# Altium integrated library Xilinx PLD XC9500XV.IntLib: 50 symbols (part 1 of 3)
Pins are listed as number, name and electrical type; pins without a type are passive.

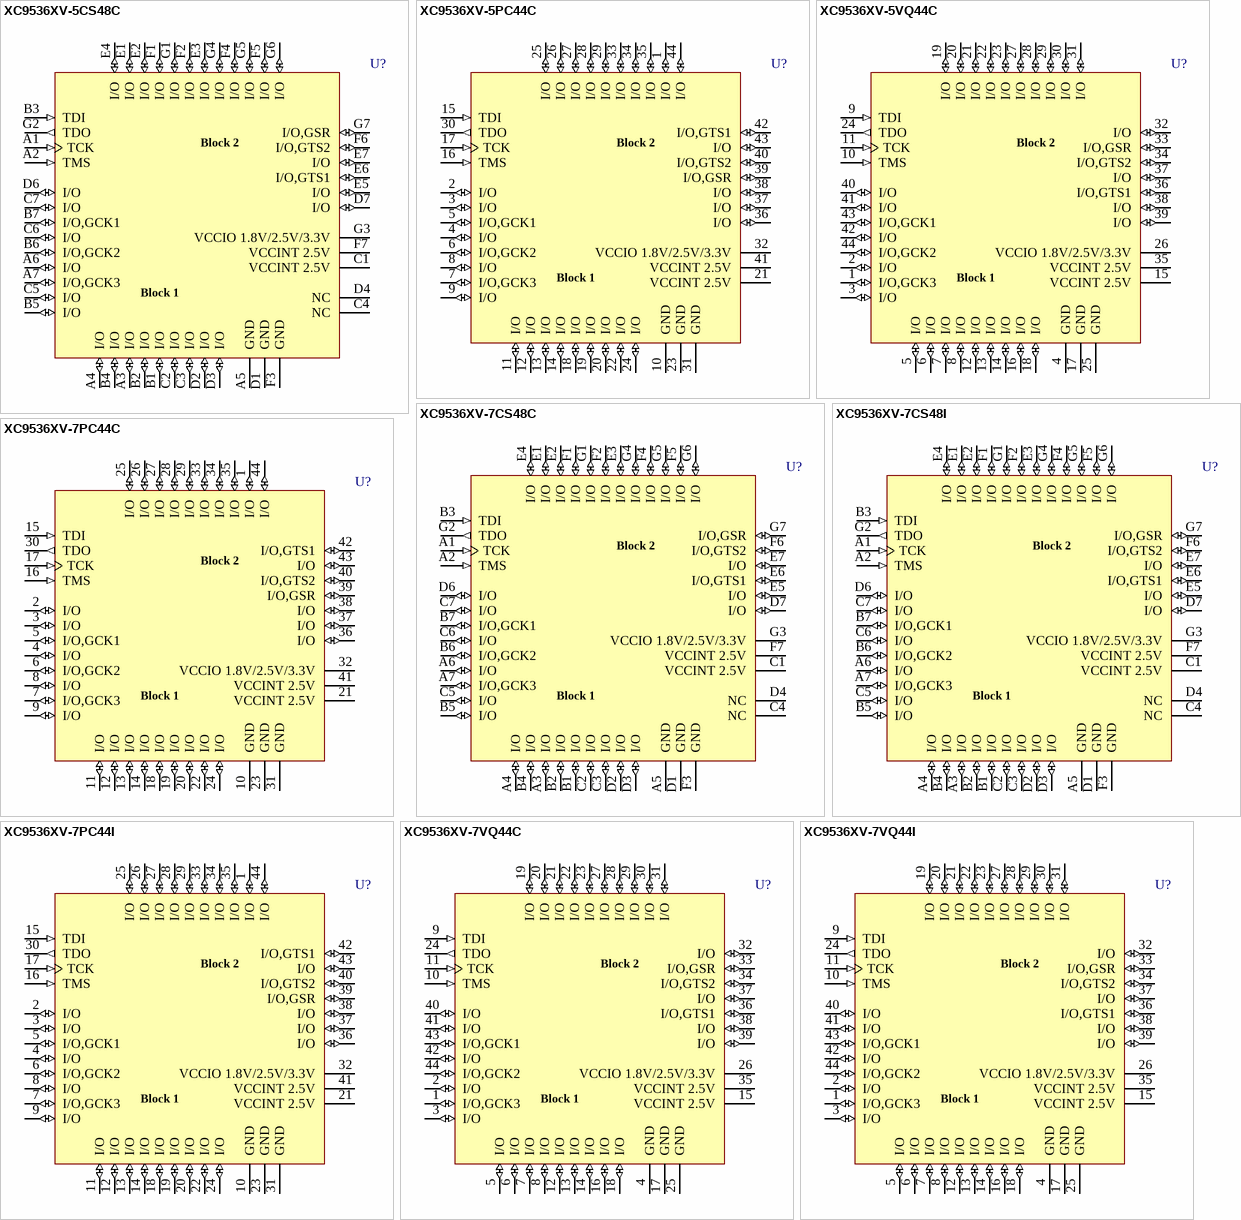
[diagram p0: symbols XC9536XV-5CS48C to XC9536XV-7VQ44I]

## XC9536XV-5CS48C
designator U?
XC9500XV, 2.5V High-Performance CPLD with 36 Macrocells, 48-Ball CSBGA, Commercial Grade; PackageDocument: ver1.1, Apr-2001; Published: 17-Jul-2002; DatasheetDocument: ver2.5, Aug-2003; PackageReference: CS48; Publisher: Altium Limited
footprint CS48 (48-Ball Chip Scale Ball Grid Array (CS48))
3D model XC9536XV-CS48 (48-Ball Chip Scale Ball Grid Array (CS48))
signal-integrity model XC9536XV_CS48 (XC9500XV)
pins: A1 TCK (in), A2 TMS (in), A3 I/O (io), A4 I/O (io), A5 GND (power), A6 I/O (io), A7 I/O,GCK3 (io), B1 I/O (io), B2 I/O (io), B3 TDI (in), B4 I/O (io), B5 I/O (io), B6 I/O,GCK2 (io), B7 I/O,GCK1 (io), C1 VCCINT 2.5V (power), C2 I/O (io), C3 I/O (io), C4 NC, C5 I/O (io), C6 I/O (io), C7 I/O (io), D1 GND (power), D2 I/O (io), D3 I/O (io), D4 NC, D6 I/O (io), D7 I/O (io), E1 I/O (io), E2 I/O (io), E3 I/O (io), E4 I/O (io), E5 I/O (io), E6 I/O,GTS1 (io), E7 I/O (io), F1 I/O (io), F2 I/O (io), F3 GND (power), F4 I/O (io), F5 I/O (io), F6 I/O,GTS2 (io), F7 VCCINT 2.5V (power), G1 I/O (io), G2 TDO (out), G3 VCCIO 1.8V/2.5V/3.3V (power), G4 I/O (io), G5 I/O (io), G6 I/O (io), G7 I/O,GSR (io)
text: Block 2; Block 1

## XC9536XV-5PC44C
designator U?
XC9500XV, 2.5V High-Performance CPLD with 36 Macrocells, 44-Pin PLCC, Commercial Grade; PackageDocument: ver1.0, Jun-2000; Published: 17-Jul-2002; DatasheetDocument: ver2.5, Aug-2003; PackageReference: PC44; Publisher: Altium Limited; Code_JEDEC: MS-047; Code_IPC: PLCC-44
footprint PC44 (44-Pin Plastic Leaded Chip Carrier (PC44))
3D model XC9536XV-PC44 (44-Pin Plastic Leaded Chip Carrier (PC44))
signal-integrity model XC9536XV_PLCC44 (XC9500XV)
pins: 1 I/O (io), 2 I/O (io), 3 I/O (io), 4 I/O (io), 5 I/O,GCK1 (io), 6 I/O,GCK2 (io), 7 I/O,GCK3 (io), 8 I/O (io), 9 I/O (io), 10 GND (power), 11 I/O (io), 12 I/O (io), 13 I/O (io), 14 I/O (io), 15 TDI (in), 16 TMS (in), 17 TCK (in), 18 I/O (io), 19 I/O (io), 20 I/O (io), 21 VCCINT 2.5V (power), 22 I/O (io), 23 GND (power), 24 I/O (io), 25 I/O (io), 26 I/O (io), 27 I/O (io), 28 I/O (io), 29 I/O (io), 30 TDO (out), 31 GND (power), 32 VCCIO 1.8V/2.5V/3.3V (power), 33 I/O (io), 34 I/O (io), 35 I/O (io), 36 I/O (io), 37 I/O (io), 38 I/O (io), 39 I/O,GSR (io), 40 I/O,GTS2 (io), 41 VCCINT 2.5V (power), 42 I/O,GTS1 (io), 43 I/O (io), 44 I/O (io)
text: Block 2; Block 1

## XC9536XV-5VQ44C
designator U?
XC9500XV, 2.5V High-Performance CPLD with 36 Macrocells, 44-Pin VQFP, Commercial Grade; PackageDocument: ver1.1, Oct-2002; Published: 17-Jul-2002; DatasheetDocument: ver2.5, Aug-2003; PackageReference: VQ44; Publisher: Altium Limited; Code_JEDEC: MS-026-ACB
footprint VQ44 (44-Pin Very Thin Quad Flat Pack (VQ44))
3D model XC9536XV-VQ44 (44-Pin Very Thin Quad Flat Pack (VQ44))
signal-integrity model XC9536XV_VQ44 (XC9500XV)
pins: 1 I/O,GCK3 (io), 2 I/O (io), 3 I/O (io), 4 GND (power), 5 I/O (io), 6 I/O (io), 7 I/O (io), 8 I/O (io), 9 TDI (in), 10 TMS (in), 11 TCK (in), 12 I/O (io), 13 I/O (io), 14 I/O (io), 15 VCCINT 2.5V (power), 16 I/O (io), 17 GND (power), 18 I/O (io), 19 I/O (io), 20 I/O (io), 21 I/O (io), 22 I/O (io), 23 I/O (io), 24 TDO (out), 25 GND (power), 26 VCCIO 1.8V/2.5V/3.3V (power), 27 I/O (io), 28 I/O (io), 29 I/O (io), 30 I/O (io), 31 I/O (io), 32 I/O (io), 33 I/O,GSR (io), 34 I/O,GTS2 (io), 35 VCCINT 2.5V (power), 36 I/O,GTS1 (io), 37 I/O (io), 38 I/O (io), 39 I/O (io), 40 I/O (io), 41 I/O (io), 42 I/O (io), 43 I/O,GCK1 (io), 44 I/O,GCK2 (io)
text: Block 2; Block 1

## XC9536XV-7CS48C
designator U?
XC9500XV, 2.5V High-Performance CPLD with 36 Macrocells, 48-Ball CSBGA, Commercial Grade; PackageDocument: ver1.1, Apr-2001; Published: 17-Jul-2002; DatasheetDocument: ver2.5, Aug-2003; PackageReference: CS48; Publisher: Altium Limited
footprint CS48 (48-Ball Chip Scale Ball Grid Array (CS48))
3D model XC9536XV-CS48 (48-Ball Chip Scale Ball Grid Array (CS48))
signal-integrity model XC9536XV_CS48 (XC9500XV)
pins: A1 TCK (in), A2 TMS (in), A3 I/O (io), A4 I/O (io), A5 GND (power), A6 I/O (io), A7 I/O,GCK3 (io), B1 I/O (io), B2 I/O (io), B3 TDI (in), B4 I/O (io), B5 I/O (io), B6 I/O,GCK2 (io), B7 I/O,GCK1 (io), C1 VCCINT 2.5V (power), C2 I/O (io), C3 I/O (io), C4 NC, C5 I/O (io), C6 I/O (io), C7 I/O (io), D1 GND (power), D2 I/O (io), D3 I/O (io), D4 NC, D6 I/O (io), D7 I/O (io), E1 I/O (io), E2 I/O (io), E3 I/O (io), E4 I/O (io), E5 I/O (io), E6 I/O,GTS1 (io), E7 I/O (io), F1 I/O (io), F2 I/O (io), F3 GND (power), F4 I/O (io), F5 I/O (io), F6 I/O,GTS2 (io), F7 VCCINT 2.5V (power), G1 I/O (io), G2 TDO (out), G3 VCCIO 1.8V/2.5V/3.3V (power), G4 I/O (io), G5 I/O (io), G6 I/O (io), G7 I/O,GSR (io)
text: Block 2; Block 1

## XC9536XV-7CS48I
designator U?
XC9500XV, 2.5V High-Performance CPLD with 36 Macrocells, 48-Ball CSBGA, Industrial Grade; PackageDocument: ver1.1, Apr-2001; Published: 17-Jul-2002; DatasheetDocument: ver2.5, Aug-2003; PackageReference: CS48; Publisher: Altium Limited
footprint CS48 (48-Ball Chip Scale Ball Grid Array (CS48))
3D model XC9536XV-CS48 (48-Ball Chip Scale Ball Grid Array (CS48))
signal-integrity model XC9536XV_CS48 (XC9500XV)
pins: A1 TCK (in), A2 TMS (in), A3 I/O (io), A4 I/O (io), A5 GND (power), A6 I/O (io), A7 I/O,GCK3 (io), B1 I/O (io), B2 I/O (io), B3 TDI (in), B4 I/O (io), B5 I/O (io), B6 I/O,GCK2 (io), B7 I/O,GCK1 (io), C1 VCCINT 2.5V (power), C2 I/O (io), C3 I/O (io), C4 NC, C5 I/O (io), C6 I/O (io), C7 I/O (io), D1 GND (power), D2 I/O (io), D3 I/O (io), D4 NC, D6 I/O (io), D7 I/O (io), E1 I/O (io), E2 I/O (io), E3 I/O (io), E4 I/O (io), E5 I/O (io), E6 I/O,GTS1 (io), E7 I/O (io), F1 I/O (io), F2 I/O (io), F3 GND (power), F4 I/O (io), F5 I/O (io), F6 I/O,GTS2 (io), F7 VCCINT 2.5V (power), G1 I/O (io), G2 TDO (out), G3 VCCIO 1.8V/2.5V/3.3V (power), G4 I/O (io), G5 I/O (io), G6 I/O (io), G7 I/O,GSR (io)
text: Block 2; Block 1

## XC9536XV-7PC44C
designator U?
XC9500XV, 2.5V High-Performance CPLD with 36 Macrocells, 44-Pin PLCC, Commercial Grade; PackageDocument: ver1.0, Jun-2000; Published: 17-Jul-2002; DatasheetDocument: ver2.5, Aug-2003; PackageReference: PC44; Publisher: Altium Limited; Code_JEDEC: MS-047; Code_IPC: PLCC-44
footprint PC44 (44-Pin Plastic Leaded Chip Carrier (PC44))
3D model XC9536XV-PC44 (44-Pin Plastic Leaded Chip Carrier (PC44))
signal-integrity model XC9536XV_PLCC44 (XC9500XV)
pins: 1 I/O (io), 2 I/O (io), 3 I/O (io), 4 I/O (io), 5 I/O,GCK1 (io), 6 I/O,GCK2 (io), 7 I/O,GCK3 (io), 8 I/O (io), 9 I/O (io), 10 GND (power), 11 I/O (io), 12 I/O (io), 13 I/O (io), 14 I/O (io), 15 TDI (in), 16 TMS (in), 17 TCK (in), 18 I/O (io), 19 I/O (io), 20 I/O (io), 21 VCCINT 2.5V (power), 22 I/O (io), 23 GND (power), 24 I/O (io), 25 I/O (io), 26 I/O (io), 27 I/O (io), 28 I/O (io), 29 I/O (io), 30 TDO (out), 31 GND (power), 32 VCCIO 1.8V/2.5V/3.3V (power), 33 I/O (io), 34 I/O (io), 35 I/O (io), 36 I/O (io), 37 I/O (io), 38 I/O (io), 39 I/O,GSR (io), 40 I/O,GTS2 (io), 41 VCCINT 2.5V (power), 42 I/O,GTS1 (io), 43 I/O (io), 44 I/O (io)
text: Block 2; Block 1

## XC9536XV-7PC44I
designator U?
XC9500XV, 2.5V High-Performance CPLD with 36 Macrocells, 44-Pin PLCC, Industrial Grade; PackageDocument: ver1.0, Jun-2000; Published: 17-Jul-2002; DatasheetDocument: ver2.5, Aug-2003; PackageReference: PC44; Publisher: Altium Limited; Code_JEDEC: MS-047; Code_IPC: PLCC-44
footprint PC44 (44-Pin Plastic Leaded Chip Carrier (PC44))
3D model XC9536XV-PC44 (44-Pin Plastic Leaded Chip Carrier (PC44))
signal-integrity model XC9536XV_PLCC44 (XC9500XV)
pins: 1 I/O (io), 2 I/O (io), 3 I/O (io), 4 I/O (io), 5 I/O,GCK1 (io), 6 I/O,GCK2 (io), 7 I/O,GCK3 (io), 8 I/O (io), 9 I/O (io), 10 GND (power), 11 I/O (io), 12 I/O (io), 13 I/O (io), 14 I/O (io), 15 TDI (in), 16 TMS (in), 17 TCK (in), 18 I/O (io), 19 I/O (io), 20 I/O (io), 21 VCCINT 2.5V (power), 22 I/O (io), 23 GND (power), 24 I/O (io), 25 I/O (io), 26 I/O (io), 27 I/O (io), 28 I/O (io), 29 I/O (io), 30 TDO (out), 31 GND (power), 32 VCCIO 1.8V/2.5V/3.3V (power), 33 I/O (io), 34 I/O (io), 35 I/O (io), 36 I/O (io), 37 I/O (io), 38 I/O (io), 39 I/O,GSR (io), 40 I/O,GTS2 (io), 41 VCCINT 2.5V (power), 42 I/O,GTS1 (io), 43 I/O (io), 44 I/O (io)
text: Block 2; Block 1

## XC9536XV-7VQ44C
designator U?
XC9500XV, 2.5V High-Performance CPLD with 36 Macrocells, 44-Pin VQFP, Commercial Grade; PackageDocument: ver1.1, Oct-2002; Published: 17-Jul-2002; DatasheetDocument: ver2.5, Aug-2003; PackageReference: VQ44; Publisher: Altium Limited; Code_JEDEC: MS-026-ACB
footprint VQ44 (44-Pin Very Thin Quad Flat Pack (VQ44))
3D model XC9536XV-VQ44 (44-Pin Very Thin Quad Flat Pack (VQ44))
signal-integrity model XC9536XV_VQ44 (XC9500XV)
pins: 1 I/O,GCK3 (io), 2 I/O (io), 3 I/O (io), 4 GND (power), 5 I/O (io), 6 I/O (io), 7 I/O (io), 8 I/O (io), 9 TDI (in), 10 TMS (in), 11 TCK (in), 12 I/O (io), 13 I/O (io), 14 I/O (io), 15 VCCINT 2.5V (power), 16 I/O (io), 17 GND (power), 18 I/O (io), 19 I/O (io), 20 I/O (io), 21 I/O (io), 22 I/O (io), 23 I/O (io), 24 TDO (out), 25 GND (power), 26 VCCIO 1.8V/2.5V/3.3V (power), 27 I/O (io), 28 I/O (io), 29 I/O (io), 30 I/O (io), 31 I/O (io), 32 I/O (io), 33 I/O,GSR (io), 34 I/O,GTS2 (io), 35 VCCINT 2.5V (power), 36 I/O,GTS1 (io), 37 I/O (io), 38 I/O (io), 39 I/O (io), 40 I/O (io), 41 I/O (io), 42 I/O (io), 43 I/O,GCK1 (io), 44 I/O,GCK2 (io)
text: Block 2; Block 1

## XC9536XV-7VQ44I
designator U?
XC9500XV, 2.5V High-Performance CPLD with 36 Macrocells, 44-Pin VQFP, Industrial Grade; PackageDocument: ver1.1, Oct-2002; Published: 17-Jul-2002; DatasheetDocument: ver2.5, Aug-2003; PackageReference: VQ44; Publisher: Altium Limited; Code_JEDEC: MS-026-ACB
footprint VQ44 (44-Pin Very Thin Quad Flat Pack (VQ44))
3D model XC9536XV-VQ44 (44-Pin Very Thin Quad Flat Pack (VQ44))
signal-integrity model XC9536XV_VQ44 (XC9500XV)
pins: 1 I/O,GCK3 (io), 2 I/O (io), 3 I/O (io), 4 GND (power), 5 I/O (io), 6 I/O (io), 7 I/O (io), 8 I/O (io), 9 TDI (in), 10 TMS (in), 11 TCK (in), 12 I/O (io), 13 I/O (io), 14 I/O (io), 15 VCCINT 2.5V (power), 16 I/O (io), 17 GND (power), 18 I/O (io), 19 I/O (io), 20 I/O (io), 21 I/O (io), 22 I/O (io), 23 I/O (io), 24 TDO (out), 25 GND (power), 26 VCCIO 1.8V/2.5V/3.3V (power), 27 I/O (io), 28 I/O (io), 29 I/O (io), 30 I/O (io), 31 I/O (io), 32 I/O (io), 33 I/O,GSR (io), 34 I/O,GTS2 (io), 35 VCCINT 2.5V (power), 36 I/O,GTS1 (io), 37 I/O (io), 38 I/O (io), 39 I/O (io), 40 I/O (io), 41 I/O (io), 42 I/O (io), 43 I/O,GCK1 (io), 44 I/O,GCK2 (io)
text: Block 2; Block 1

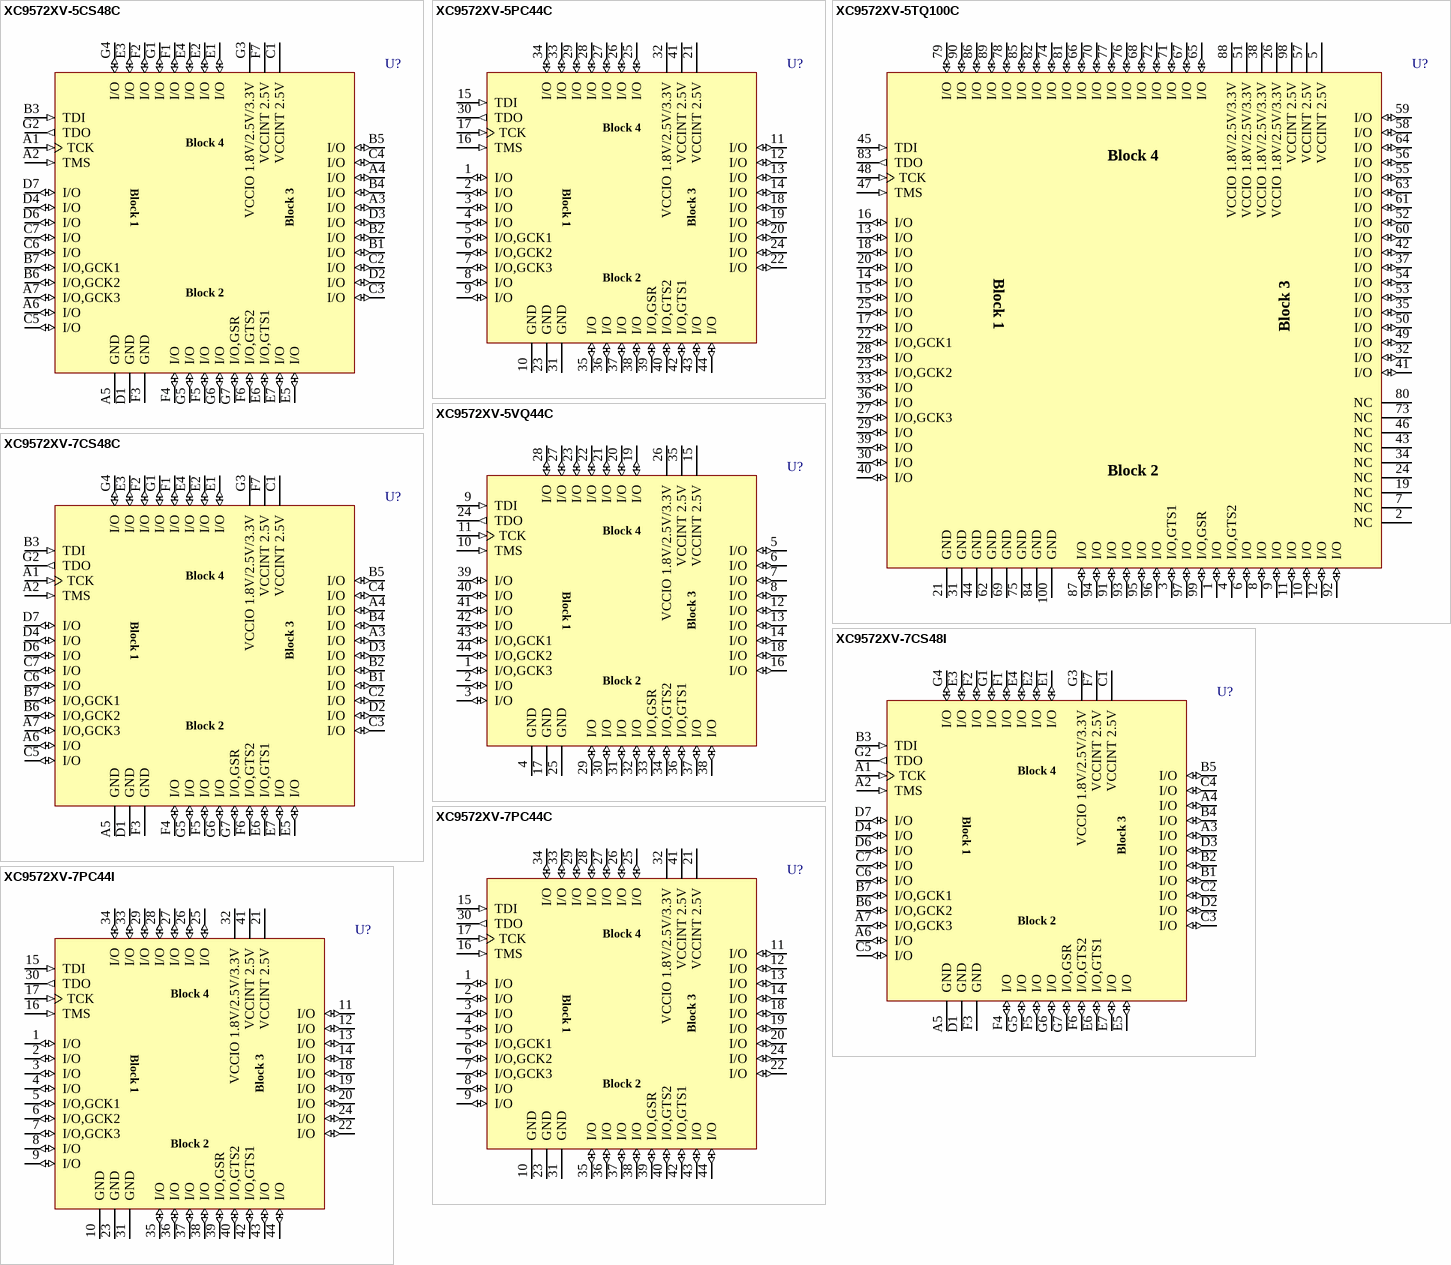
[diagram p1: symbols XC9572XV-5CS48C to XC9572XV-7PC44I]

## XC9572XV-5CS48C
designator U?
XC9500XV, 2.5V High-Performance CPLD with 72 Macrocells, 48-Ball CSBGA, Commercial Grade; PackageDocument: ver1.1, Apr-2001; Published: 17-Jul-2002; DatasheetDocument: ver2.5, Aug-2003; PackageReference: CS48; Publisher: Altium Limited
footprint CS48 (48-Ball Chip Scale Ball Grid Array (CS48))
3D model XC9572XV-CS48 (48-Ball Chip Scale Ball Grid Array (CS48))
signal-integrity model XC9572XV_CS48 (XC9500XV)
pins: A1 TCK (in), A2 TMS (in), A3 I/O (io), A4 I/O (io), A5 GND (power), A6 I/O (io), A7 I/O,GCK3 (io), B1 I/O (io), B2 I/O (io), B3 TDI (in), B4 I/O (io), B5 I/O (io), B6 I/O,GCK2 (io), B7 I/O,GCK1 (io), C1 VCCINT 2.5V (power), C2 I/O (io), C3 I/O (io), C4 I/O (io), C5 I/O (io), C6 I/O (io), C7 I/O (io), D1 GND (power), D2 I/O (io), D3 I/O (io), D4 I/O (io), D6 I/O (io), D7 I/O (io), E1 I/O (io), E2 I/O (io), E3 I/O (io), E4 I/O (io), E5 I/O (io), E6 I/O,GTS1 (io), E7 I/O (io), F1 I/O (io), F2 I/O (io), F3 GND (power), F4 I/O (io), F5 I/O (io), F6 I/O,GTS2 (io), F7 VCCINT 2.5V (power), G1 I/O (io), G2 TDO (out), G3 VCCIO 1.8V/2.5V/3.3V (power), G4 I/O (io), G5 I/O (io), G6 I/O (io), G7 I/O,GSR (io)
text: Block 4; Block 1; Block 3; Block 2

## XC9572XV-5PC44C
designator U?
XC9500XV, 2.5V High-Performance CPLD with 72 Macrocells, 44-Pin PLCC, Commercial Grade; PackageDocument: ver1.0, Jun-2000; Published: 17-Jul-2002; DatasheetDocument: ver2.5, Aug-2003; PackageReference: PC44; Publisher: Altium Limited; Code_JEDEC: MS-047; Code_IPC: PLCC-44
footprint PC44 (44-Pin Plastic Leaded Chip Carrier (PC44))
3D model XC9572XV-PC44 (44-Pin Plastic Leaded Chip Carrier (PC44))
signal-integrity model XC9572XV_PLCC44 (XC9500XV)
pins: 1 I/O (io), 2 I/O (io), 3 I/O (io), 4 I/O (io), 5 I/O,GCK1 (io), 6 I/O,GCK2 (io), 7 I/O,GCK3 (io), 8 I/O (io), 9 I/O (io), 10 GND (power), 11 I/O (io), 12 I/O (io), 13 I/O (io), 14 I/O (io), 15 TDI (in), 16 TMS (in), 17 TCK (in), 18 I/O (io), 19 I/O (io), 20 I/O (io), 21 VCCINT 2.5V (power), 22 I/O (io), 23 GND (power), 24 I/O (io), 25 I/O (io), 26 I/O (io), 27 I/O (io), 28 I/O (io), 29 I/O (io), 30 TDO (out), 31 GND (power), 32 VCCIO 1.8V/2.5V/3.3V (power), 33 I/O (io), 34 I/O (io), 35 I/O (io), 36 I/O (io), 37 I/O (io), 38 I/O (io), 39 I/O,GSR (io), 40 I/O,GTS2 (io), 41 VCCINT 2.5V (power), 42 I/O,GTS1 (io), 43 I/O (io), 44 I/O (io)
text: Block 4; Block 1; Block 3; Block 2

## XC9572XV-5TQ100C
designator U?
XC9500XV, 2.5V High-Performance CPLD with 72 Macrocells, 100-Pin TQFP, Commercial Grade; PackageDocument: ver1.1, Oct-2002; Published: 17-Jul-2002; DatasheetDocument: ver2.5, Aug-2003; PackageReference: TQ100; Publisher: Altium Limited; Code_IPC: SQFP14X14-100
footprint TQ100 (100-Pin Thin Quad Flat Pack (TQ100))
3D model XC9572XV-TQ100 (100-Pin Thin Quad Flat Pack (TQ100))
signal-integrity model XC9572XV_TQ100 (XC9500XV)
pins: 1 I/O (io), 2 NC, 3 I/O,GTS1 (io), 4 I/O,GTS2 (io), 5 VCCINT 2.5V (power), 6 I/O (io), 7 NC, 8 I/O (io), 9 I/O (io), 10 I/O (io), 11 I/O (io), 12 I/O (io), 13 I/O (io), 14 I/O (io), 15 I/O (io), 16 I/O (io), 17 I/O (io), 18 I/O (io), 19 NC, 20 I/O (io), 21 GND (power), 22 I/O,GCK1 (io), 23 I/O,GCK2 (io), 24 NC, 25 I/O (io), 26 VCCIO 1.8V/2.5V/3.3V (power), 27 I/O,GCK3 (io), 28 I/O (io), 29 I/O (io), 30 I/O (io), 31 GND (power), 32 I/O (io), 33 I/O (io), 34 NC, 35 I/O (io), 36 I/O (io), 37 I/O (io), 38 VCCIO 1.8V/2.5V/3.3V (power), 39 I/O (io), 40 I/O (io), 41 I/O (io), 42 I/O (io), 43 NC, 44 GND (power), 45 TDI (in), 46 NC, 47 TMS (in), 48 TCK (in), 49 I/O (io), 50 I/O (io), 51 VCCIO 1.8V/2.5V/3.3V (power), 52 I/O (io), 53 I/O (io), 54 I/O (io), 55 I/O (io), 56 I/O (io), 57 VCCINT 2.5V (power), 58 I/O (io), 59 I/O (io), 60 I/O (io), 61 I/O (io), 62 GND (power), 63 I/O (io), 64 I/O (io), 65 I/O (io), 66 I/O (io), 67 I/O (io), 68 I/O (io), 69 GND (power), 70 I/O (io), 71 I/O (io), 72 I/O (io), 73 NC, 74 I/O (io), 75 GND (power), 76 I/O (io), 77 I/O (io), 78 I/O (io), 79 I/O (io), 80 NC, 81 I/O (io), 82 I/O (io), 83 TDO (out), 84 GND (power), 85 I/O (io), 86 I/O (io), 87 I/O (io), 88 VCCIO 1.8V/2.5V/3.3V (power), 89 I/O (io), 90 I/O (io), 91 I/O (io), 92 I/O (io), 93 I/O (io), 94 I/O (io), 95 I/O (io), 96 I/O (io), 97 I/O (io), 98 VCCINT 2.5V (power), 99 I/O,GSR (io), 100 GND (power)
text: Block 4; Block 1; Block 3; Block 2

## XC9572XV-5VQ44C
designator U?
XC9500XV, 2.5V High-Performance CPLD with 72 Macrocells, 44-Pin VQFP, Commercial Grade; PackageDocument: ver1.1, Oct-2002; Published: 17-Jul-2002; DatasheetDocument: ver2.5, Aug-2003; PackageReference: VQ44; Publisher: Altium Limited; Code_JEDEC: MS-026-ACB
footprint VQ44 (44-Pin Very Thin Quad Flat Pack (VQ44))
3D model XC9572XV-VQ44 (44-Pin Very Thin Quad Flat Pack (VQ44))
signal-integrity model XC9572XV_VQ44 (XC9500XV)
pins: 1 I/O,GCK3 (io), 2 I/O (io), 3 I/O (io), 4 GND (power), 5 I/O (io), 6 I/O (io), 7 I/O (io), 8 I/O (io), 9 TDI (in), 10 TMS (in), 11 TCK (in), 12 I/O (io), 13 I/O (io), 14 I/O (io), 15 VCCINT 2.5V (power), 16 I/O (io), 17 GND (power), 18 I/O (io), 19 I/O (io), 20 I/O (io), 21 I/O (io), 22 I/O (io), 23 I/O (io), 24 TDO (out), 25 GND (power), 26 VCCIO 1.8V/2.5V/3.3V (power), 27 I/O (io), 28 I/O (io), 29 I/O (io), 30 I/O (io), 31 I/O (io), 32 I/O (io), 33 I/O,GSR (io), 34 I/O,GTS2 (io), 35 VCCINT 2.5V (power), 36 I/O,GTS1 (io), 37 I/O (io), 38 I/O (io), 39 I/O (io), 40 I/O (io), 41 I/O (io), 42 I/O (io), 43 I/O,GCK1 (io), 44 I/O,GCK2 (io)
text: Block 4; Block 1; Block 3; Block 2

## XC9572XV-7CS48C
designator U?
XC9500XV, 2.5V High-Performance CPLD with 72 Macrocells, 48-Ball CSBGA, Commercial Grade; PackageDocument: ver1.1, Apr-2001; Published: 17-Jul-2002; DatasheetDocument: ver2.5, Aug-2003; PackageReference: CS48; Publisher: Altium Limited
footprint CS48 (48-Ball Chip Scale Ball Grid Array (CS48))
3D model XC9572XV-CS48 (48-Ball Chip Scale Ball Grid Array (CS48))
signal-integrity model XC9572XV_CS48 (XC9500XV)
pins: A1 TCK (in), A2 TMS (in), A3 I/O (io), A4 I/O (io), A5 GND (power), A6 I/O (io), A7 I/O,GCK3 (io), B1 I/O (io), B2 I/O (io), B3 TDI (in), B4 I/O (io), B5 I/O (io), B6 I/O,GCK2 (io), B7 I/O,GCK1 (io), C1 VCCINT 2.5V (power), C2 I/O (io), C3 I/O (io), C4 I/O (io), C5 I/O (io), C6 I/O (io), C7 I/O (io), D1 GND (power), D2 I/O (io), D3 I/O (io), D4 I/O (io), D6 I/O (io), D7 I/O (io), E1 I/O (io), E2 I/O (io), E3 I/O (io), E4 I/O (io), E5 I/O (io), E6 I/O,GTS1 (io), E7 I/O (io), F1 I/O (io), F2 I/O (io), F3 GND (power), F4 I/O (io), F5 I/O (io), F6 I/O,GTS2 (io), F7 VCCINT 2.5V (power), G1 I/O (io), G2 TDO (out), G3 VCCIO 1.8V/2.5V/3.3V (power), G4 I/O (io), G5 I/O (io), G6 I/O (io), G7 I/O,GSR (io)
text: Block 4; Block 1; Block 3; Block 2

## XC9572XV-7CS48I
designator U?
XC9500XV, 2.5V High-Performance CPLD with 72 Macrocells, 48-Ball CSBGA, Industrial Grade; PackageDocument: ver1.1, Apr-2001; Published: 17-Jul-2002; DatasheetDocument: ver2.5, Aug-2003; PackageReference: CS48; Publisher: Altium Limited
footprint CS48 (48-Ball Chip Scale Ball Grid Array (CS48))
3D model XC9572XV-CS48 (48-Ball Chip Scale Ball Grid Array (CS48))
signal-integrity model XC9572XV_CS48 (XC9500XV)
pins: A1 TCK (in), A2 TMS (in), A3 I/O (io), A4 I/O (io), A5 GND (power), A6 I/O (io), A7 I/O,GCK3 (io), B1 I/O (io), B2 I/O (io), B3 TDI (in), B4 I/O (io), B5 I/O (io), B6 I/O,GCK2 (io), B7 I/O,GCK1 (io), C1 VCCINT 2.5V (power), C2 I/O (io), C3 I/O (io), C4 I/O (io), C5 I/O (io), C6 I/O (io), C7 I/O (io), D1 GND (power), D2 I/O (io), D3 I/O (io), D4 I/O (io), D6 I/O (io), D7 I/O (io), E1 I/O (io), E2 I/O (io), E3 I/O (io), E4 I/O (io), E5 I/O (io), E6 I/O,GTS1 (io), E7 I/O (io), F1 I/O (io), F2 I/O (io), F3 GND (power), F4 I/O (io), F5 I/O (io), F6 I/O,GTS2 (io), F7 VCCINT 2.5V (power), G1 I/O (io), G2 TDO (out), G3 VCCIO 1.8V/2.5V/3.3V (power), G4 I/O (io), G5 I/O (io), G6 I/O (io), G7 I/O,GSR (io)
text: Block 4; Block 1; Block 3; Block 2

## XC9572XV-7PC44C
designator U?
XC9500XV, 2.5V High-Performance CPLD with 72 Macrocells, 44-Pin PLCC, Commercial Grade; PackageDocument: ver1.0, Jun-2000; Published: 17-Jul-2002; DatasheetDocument: ver2.5, Aug-2003; PackageReference: PC44; Publisher: Altium Limited; Code_JEDEC: MS-047; Code_IPC: PLCC-44
footprint PC44 (44-Pin Plastic Leaded Chip Carrier (PC44))
3D model XC9572XV-PC44 (44-Pin Plastic Leaded Chip Carrier (PC44))
signal-integrity model XC9572XV_PLCC44 (XC9500XV)
pins: 1 I/O (io), 2 I/O (io), 3 I/O (io), 4 I/O (io), 5 I/O,GCK1 (io), 6 I/O,GCK2 (io), 7 I/O,GCK3 (io), 8 I/O (io), 9 I/O (io), 10 GND (power), 11 I/O (io), 12 I/O (io), 13 I/O (io), 14 I/O (io), 15 TDI (in), 16 TMS (in), 17 TCK (in), 18 I/O (io), 19 I/O (io), 20 I/O (io), 21 VCCINT 2.5V (power), 22 I/O (io), 23 GND (power), 24 I/O (io), 25 I/O (io), 26 I/O (io), 27 I/O (io), 28 I/O (io), 29 I/O (io), 30 TDO (out), 31 GND (power), 32 VCCIO 1.8V/2.5V/3.3V (power), 33 I/O (io), 34 I/O (io), 35 I/O (io), 36 I/O (io), 37 I/O (io), 38 I/O (io), 39 I/O,GSR (io), 40 I/O,GTS2 (io), 41 VCCINT 2.5V (power), 42 I/O,GTS1 (io), 43 I/O (io), 44 I/O (io)
text: Block 4; Block 1; Block 3; Block 2

## XC9572XV-7PC44I
designator U?
XC9500XV, 2.5V High-Performance CPLD with 72 Macrocells, 44-Pin PLCC, Industrial Grade; PackageDocument: ver1.0, Jun-2000; Published: 17-Jul-2002; DatasheetDocument: ver2.5, Aug-2003; PackageReference: PC44; Publisher: Altium Limited; Code_JEDEC: MS-047; Code_IPC: PLCC-44
footprint PC44 (44-Pin Plastic Leaded Chip Carrier (PC44))
3D model XC9572XV-PC44 (44-Pin Plastic Leaded Chip Carrier (PC44))
signal-integrity model XC9572XV_PLCC44 (XC9500XV)
pins: 1 I/O (io), 2 I/O (io), 3 I/O (io), 4 I/O (io), 5 I/O,GCK1 (io), 6 I/O,GCK2 (io), 7 I/O,GCK3 (io), 8 I/O (io), 9 I/O (io), 10 GND (power), 11 I/O (io), 12 I/O (io), 13 I/O (io), 14 I/O (io), 15 TDI (in), 16 TMS (in), 17 TCK (in), 18 I/O (io), 19 I/O (io), 20 I/O (io), 21 VCCINT 2.5V (power), 22 I/O (io), 23 GND (power), 24 I/O (io), 25 I/O (io), 26 I/O (io), 27 I/O (io), 28 I/O (io), 29 I/O (io), 30 TDO (out), 31 GND (power), 32 VCCIO 1.8V/2.5V/3.3V (power), 33 I/O (io), 34 I/O (io), 35 I/O (io), 36 I/O (io), 37 I/O (io), 38 I/O (io), 39 I/O,GSR (io), 40 I/O,GTS2 (io), 41 VCCINT 2.5V (power), 42 I/O,GTS1 (io), 43 I/O (io), 44 I/O (io)
text: Block 4; Block 1; Block 3; Block 2

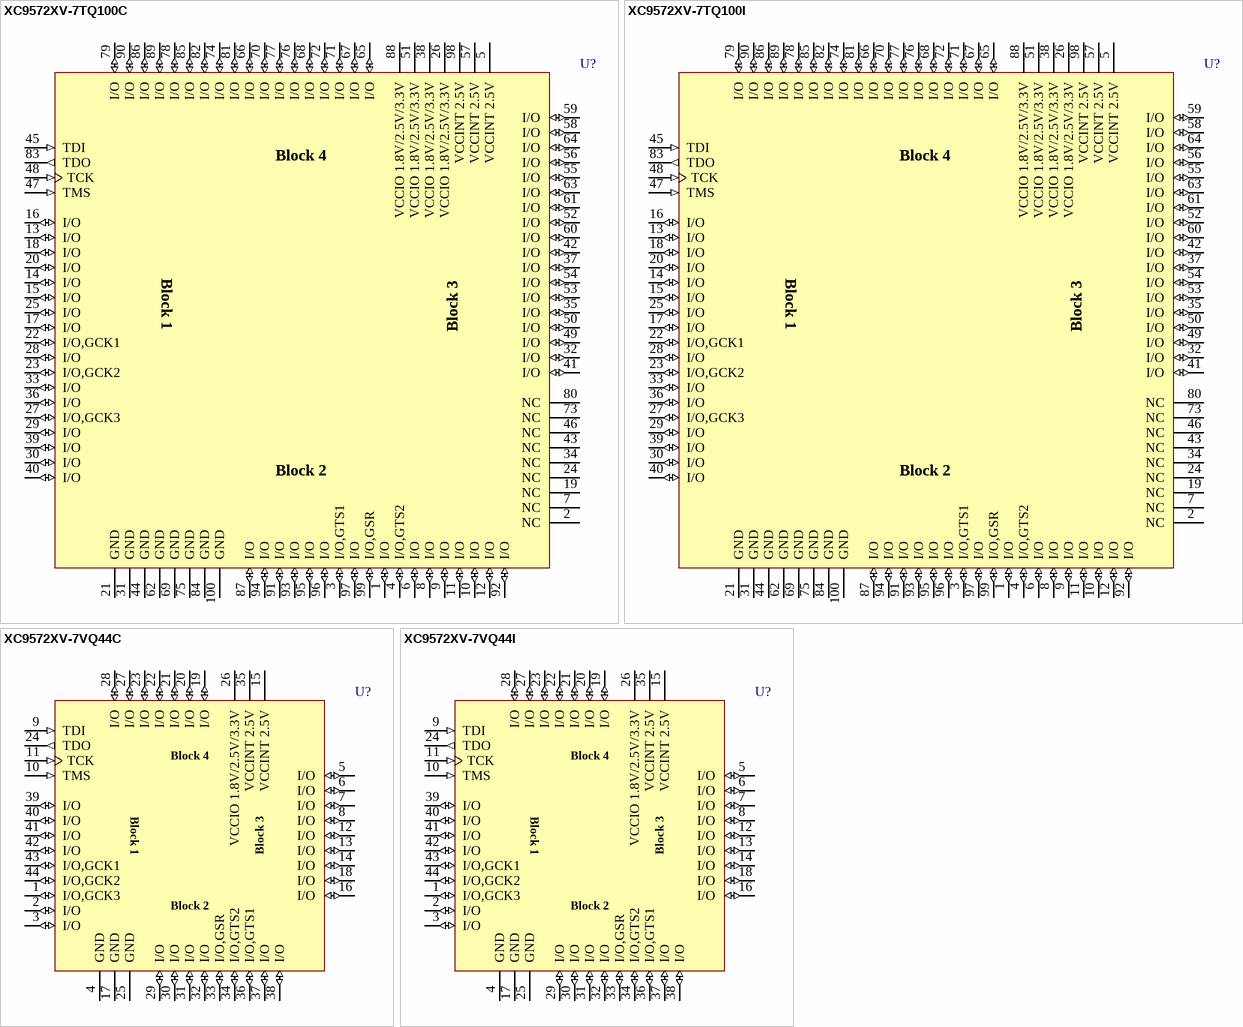
[diagram p2: symbols XC9572XV-7TQ100C to XC9572XV-7VQ44I]

## XC9572XV-7TQ100C
designator U?
XC9500XV, 2.5V High-Performance CPLD with 72 Macrocells, 100-Pin TQFP, Commercial Grade; PackageDocument: ver1.1, Oct-2002; Published: 17-Jul-2002; DatasheetDocument: ver2.5, Aug-2003; PackageReference: TQ100; Publisher: Altium Limited; Code_IPC: SQFP14X14-100
footprint TQ100 (100-Pin Thin Quad Flat Pack (TQ100))
3D model XC9572XV-TQ100 (100-Pin Thin Quad Flat Pack (TQ100))
signal-integrity model XC9572XV_TQ100 (XC9500XV)
pins: 1 I/O (io), 2 NC, 3 I/O,GTS1 (io), 4 I/O,GTS2 (io), 5 VCCINT 2.5V (power), 6 I/O (io), 7 NC, 8 I/O (io), 9 I/O (io), 10 I/O (io), 11 I/O (io), 12 I/O (io), 13 I/O (io), 14 I/O (io), 15 I/O (io), 16 I/O (io), 17 I/O (io), 18 I/O (io), 19 NC, 20 I/O (io), 21 GND (power), 22 I/O,GCK1 (io), 23 I/O,GCK2 (io), 24 NC, 25 I/O (io), 26 VCCIO 1.8V/2.5V/3.3V (power), 27 I/O,GCK3 (io), 28 I/O (io), 29 I/O (io), 30 I/O (io), 31 GND (power), 32 I/O (io), 33 I/O (io), 34 NC, 35 I/O (io), 36 I/O (io), 37 I/O (io), 38 VCCIO 1.8V/2.5V/3.3V (power), 39 I/O (io), 40 I/O (io), 41 I/O (io), 42 I/O (io), 43 NC, 44 GND (power), 45 TDI (in), 46 NC, 47 TMS (in), 48 TCK (in), 49 I/O (io), 50 I/O (io), 51 VCCIO 1.8V/2.5V/3.3V (power), 52 I/O (io), 53 I/O (io), 54 I/O (io), 55 I/O (io), 56 I/O (io), 57 VCCINT 2.5V (power), 58 I/O (io), 59 I/O (io), 60 I/O (io), 61 I/O (io), 62 GND (power), 63 I/O (io), 64 I/O (io), 65 I/O (io), 66 I/O (io), 67 I/O (io), 68 I/O (io), 69 GND (power), 70 I/O (io), 71 I/O (io), 72 I/O (io), 73 NC, 74 I/O (io), 75 GND (power), 76 I/O (io), 77 I/O (io), 78 I/O (io), 79 I/O (io), 80 NC, 81 I/O (io), 82 I/O (io), 83 TDO (out), 84 GND (power), 85 I/O (io), 86 I/O (io), 87 I/O (io), 88 VCCIO 1.8V/2.5V/3.3V (power), 89 I/O (io), 90 I/O (io), 91 I/O (io), 92 I/O (io), 93 I/O (io), 94 I/O (io), 95 I/O (io), 96 I/O (io), 97 I/O (io), 98 VCCINT 2.5V (power), 99 I/O,GSR (io), 100 GND (power)
text: Block 4; Block 1; Block 3; Block 2

## XC9572XV-7TQ100I
designator U?
XC9500XV, 2.5V High-Performance CPLD with 72 Macrocells, 100-Pin TQFP, Industrial Grade; PackageDocument: ver1.1, Oct-2002; Published: 17-Jul-2002; DatasheetDocument: ver2.5, Aug-2003; PackageReference: TQ100; Publisher: Altium Limited; Code_IPC: SQFP14X14-100
footprint TQ100 (100-Pin Thin Quad Flat Pack (TQ100))
3D model XC9572XV-TQ100 (100-Pin Thin Quad Flat Pack (TQ100))
signal-integrity model XC9572XV_TQ100 (XC9500XV)
pins: 1 I/O (io), 2 NC, 3 I/O,GTS1 (io), 4 I/O,GTS2 (io), 5 VCCINT 2.5V (power), 6 I/O (io), 7 NC, 8 I/O (io), 9 I/O (io), 10 I/O (io), 11 I/O (io), 12 I/O (io), 13 I/O (io), 14 I/O (io), 15 I/O (io), 16 I/O (io), 17 I/O (io), 18 I/O (io), 19 NC, 20 I/O (io), 21 GND (power), 22 I/O,GCK1 (io), 23 I/O,GCK2 (io), 24 NC, 25 I/O (io), 26 VCCIO 1.8V/2.5V/3.3V (power), 27 I/O,GCK3 (io), 28 I/O (io), 29 I/O (io), 30 I/O (io), 31 GND (power), 32 I/O (io), 33 I/O (io), 34 NC, 35 I/O (io), 36 I/O (io), 37 I/O (io), 38 VCCIO 1.8V/2.5V/3.3V (power), 39 I/O (io), 40 I/O (io), 41 I/O (io), 42 I/O (io), 43 NC, 44 GND (power), 45 TDI (in), 46 NC, 47 TMS (in), 48 TCK (in), 49 I/O (io), 50 I/O (io), 51 VCCIO 1.8V/2.5V/3.3V (power), 52 I/O (io), 53 I/O (io), 54 I/O (io), 55 I/O (io), 56 I/O (io), 57 VCCINT 2.5V (power), 58 I/O (io), 59 I/O (io), 60 I/O (io), 61 I/O (io), 62 GND (power), 63 I/O (io), 64 I/O (io), 65 I/O (io), 66 I/O (io), 67 I/O (io), 68 I/O (io), 69 GND (power), 70 I/O (io), 71 I/O (io), 72 I/O (io), 73 NC, 74 I/O (io), 75 GND (power), 76 I/O (io), 77 I/O (io), 78 I/O (io), 79 I/O (io), 80 NC, 81 I/O (io), 82 I/O (io), 83 TDO (out), 84 GND (power), 85 I/O (io), 86 I/O (io), 87 I/O (io), 88 VCCIO 1.8V/2.5V/3.3V (power), 89 I/O (io), 90 I/O (io), 91 I/O (io), 92 I/O (io), 93 I/O (io), 94 I/O (io), 95 I/O (io), 96 I/O (io), 97 I/O (io), 98 VCCINT 2.5V (power), 99 I/O,GSR (io), 100 GND (power)
text: Block 4; Block 1; Block 3; Block 2

## XC9572XV-7VQ44C
designator U?
XC9500XV, 2.5V High-Performance CPLD with 72 Macrocells, 44-Pin VQFP, Commercial Grade; PackageDocument: ver1.1, Oct-2002; Published: 17-Jul-2002; DatasheetDocument: ver2.5, Aug-2003; PackageReference: VQ44; Publisher: Altium Limited; Code_JEDEC: MS-026-ACB
footprint VQ44 (44-Pin Very Thin Quad Flat Pack (VQ44))
3D model XC9572XV-VQ44 (44-Pin Very Thin Quad Flat Pack (VQ44))
signal-integrity model XC9572XV_VQ44 (XC9500XV)
pins: 1 I/O,GCK3 (io), 2 I/O (io), 3 I/O (io), 4 GND (power), 5 I/O (io), 6 I/O (io), 7 I/O (io), 8 I/O (io), 9 TDI (in), 10 TMS (in), 11 TCK (in), 12 I/O (io), 13 I/O (io), 14 I/O (io), 15 VCCINT 2.5V (power), 16 I/O (io), 17 GND (power), 18 I/O (io), 19 I/O (io), 20 I/O (io), 21 I/O (io), 22 I/O (io), 23 I/O (io), 24 TDO (out), 25 GND (power), 26 VCCIO 1.8V/2.5V/3.3V (power), 27 I/O (io), 28 I/O (io), 29 I/O (io), 30 I/O (io), 31 I/O (io), 32 I/O (io), 33 I/O,GSR (io), 34 I/O,GTS2 (io), 35 VCCINT 2.5V (power), 36 I/O,GTS1 (io), 37 I/O (io), 38 I/O (io), 39 I/O (io), 40 I/O (io), 41 I/O (io), 42 I/O (io), 43 I/O,GCK1 (io), 44 I/O,GCK2 (io)
text: Block 4; Block 1; Block 3; Block 2

## XC9572XV-7VQ44I
designator U?
XC9500XV, 2.5V High-Performance CPLD with 72 Macrocells, 44-Pin VQFP, Industrial Grade; PackageDocument: ver1.1, Oct-2002; Published: 17-Jul-2002; DatasheetDocument: ver2.5, Aug-2003; PackageReference: VQ44; Publisher: Altium Limited; Code_JEDEC: MS-026-ACB
footprint VQ44 (44-Pin Very Thin Quad Flat Pack (VQ44))
3D model XC9572XV-VQ44 (44-Pin Very Thin Quad Flat Pack (VQ44))
signal-integrity model XC9572XV_VQ44 (XC9500XV)
pins: 1 I/O,GCK3 (io), 2 I/O (io), 3 I/O (io), 4 GND (power), 5 I/O (io), 6 I/O (io), 7 I/O (io), 8 I/O (io), 9 TDI (in), 10 TMS (in), 11 TCK (in), 12 I/O (io), 13 I/O (io), 14 I/O (io), 15 VCCINT 2.5V (power), 16 I/O (io), 17 GND (power), 18 I/O (io), 19 I/O (io), 20 I/O (io), 21 I/O (io), 22 I/O (io), 23 I/O (io), 24 TDO (out), 25 GND (power), 26 VCCIO 1.8V/2.5V/3.3V (power), 27 I/O (io), 28 I/O (io), 29 I/O (io), 30 I/O (io), 31 I/O (io), 32 I/O (io), 33 I/O,GSR (io), 34 I/O,GTS2 (io), 35 VCCINT 2.5V (power), 36 I/O,GTS1 (io), 37 I/O (io), 38 I/O (io), 39 I/O (io), 40 I/O (io), 41 I/O (io), 42 I/O (io), 43 I/O,GCK1 (io), 44 I/O,GCK2 (io)
text: Block 4; Block 1; Block 3; Block 2

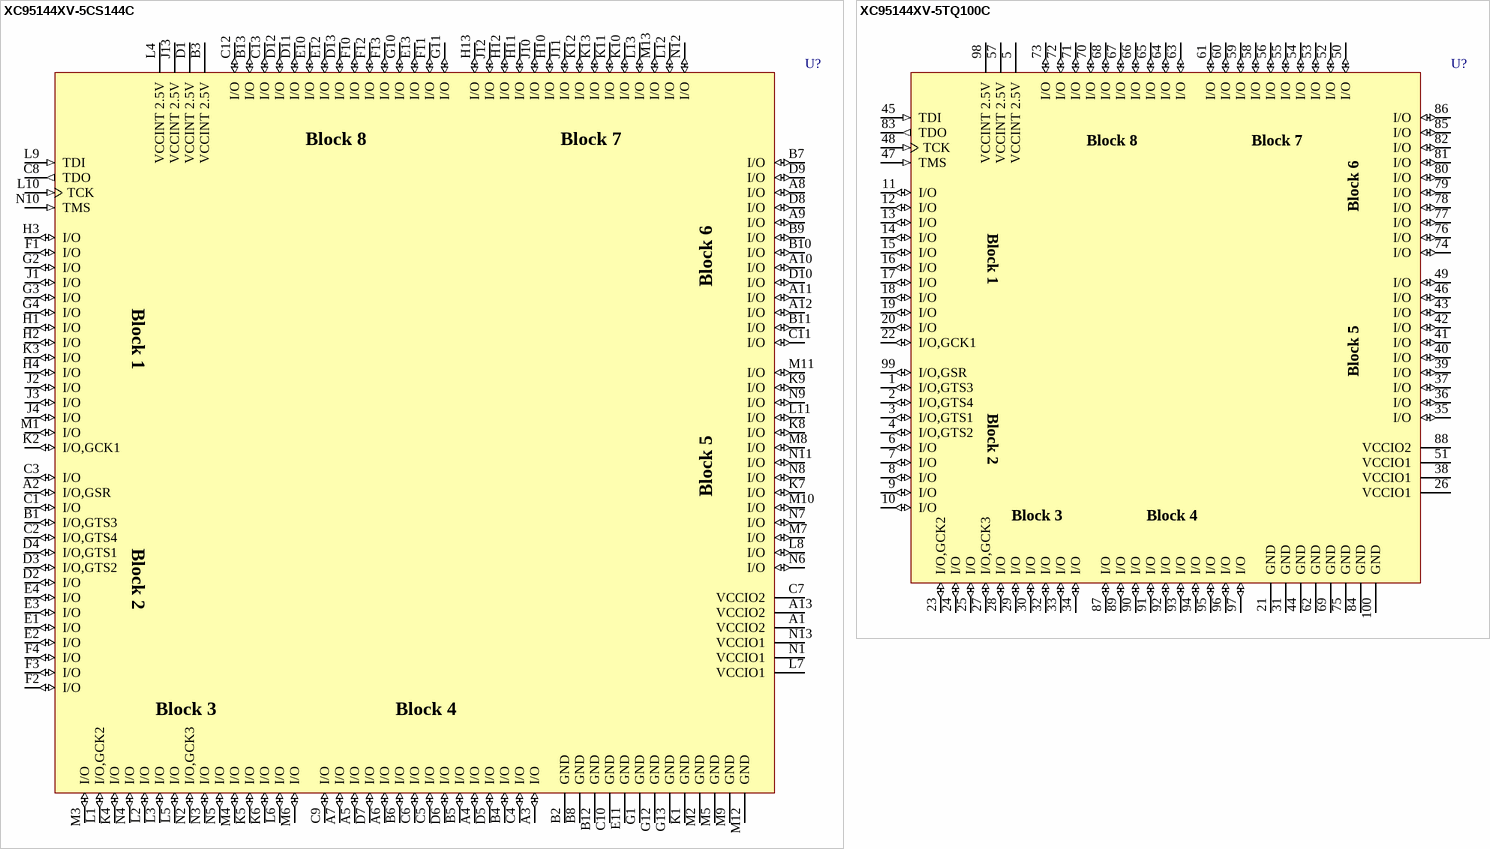
[diagram p3: symbols XC95144XV-5CS144C to XC95144XV-5TQ100C]

## XC95144XV-5CS144C
designator U?
XC9500XV, 2.5V High-Performance CPLD with 144 Macrocells, 144-Ball CSBGA, Commercial Grade; PackageDocument: ver1.0, Jun-2000; Published: 17-Jul-2002; LatestRevisionDate: 17-Sep-2003; LatestRevisionNote: PCB Footprint dimensions updated; DatasheetDocument: ver2.7, Aug-2003; PackageReference: CS144; Publisher: Altium Limited
footprint CS144 (144-Ball Chip Scale Ball Grid Array (CS144))
3D model XC95144XV-CS144 (144-Ball Chip Scale Ball Grid Array (CS144))
signal-integrity model XC95144XV_CS144 (XC9500XV)
pins: A1 VCCIO2 (power), A2 I/O,GSR (io), A3 I/O (io), A4 I/O (io), A5 I/O (io), A6 I/O (io), A7 I/O (io), A8 I/O (io), A9 I/O (io), A10 I/O (io), A11 I/O (io), A12 I/O (io), A13 VCCIO2 (power), B1 I/O,GTS3 (io), B2 GND (power), B3 VCCINT 2.5V (power), B4 I/O (io), B5 I/O (io), B6 I/O (io), B7 I/O (io), B8 GND (power), B9 I/O (io), B10 I/O (io), B11 I/O (io), B12 GND (power), B13 I/O (io), C1 I/O (io), C2 I/O,GTS4 (io), C3 I/O (io), C4 I/O (io), C5 I/O (io), C6 I/O (io), C7 VCCIO2 (power), C8 TDO (out), C9 I/O (io), C10 GND (power), C11 I/O (io), C12 I/O (io), C13 I/O (io), D1 VCCINT 2.5V (power), D2 I/O (io), D3 I/O,GTS2 (io), D4 I/O,GTS1 (io), D5 I/O (io), D6 I/O (io), D7 I/O (io), D8 I/O (io), D9 I/O (io), D10 I/O (io), D11 I/O (io), D12 I/O (io), D13 I/O (io), E1 I/O (io), E2 I/O (io), E3 I/O (io), E4 I/O (io), E10 I/O (io), E11 GND (power), E12 I/O (io), E13 I/O (io), F1 I/O (io), F2 I/O (io), F3 I/O (io), F4 I/O (io), F10 I/O (io), F11 I/O (io), F12 I/O (io), F13 I/O (io), G1 GND (power), G2 I/O (io), G3 I/O (io), G4 I/O (io), G10 I/O (io), G11 I/O (io), G12 GND (power), G13 GND (power), H1 I/O (io), H2 I/O (io), H3 I/O (io), H4 I/O (io), H10 I/O (io), H11 I/O (io), H12 I/O (io), H13 I/O (io), J1 I/O (io), J2 I/O (io), J3 I/O (io), J4 I/O (io), J10 I/O (io), J11 I/O (io), J12 I/O (io), J13 VCCINT 2.5V (power), K1 GND (power), K2 I/O,GCK1 (io), K3 I/O (io), K4 I/O (io), K5 I/O (io), K6 I/O (io), K7 I/O (io), K8 I/O (io), K9 I/O (io), K10 I/O (io), K11 I/O (io), K12 I/O (io), K13 I/O (io), L1 I/O,GCK2 (io), L2 I/O (io), L3 I/O (io), L4 VCCINT 2.5V (power), L5 I/O (io), L6 I/O (io), L7 VCCIO1 (power), L8 I/O (io), L9 TDI (in), L10 TCK (in), L11 I/O (io), L12 I/O (io), L13 I/O (io), M1 I/O (io), M2 GND (power), M3 I/O (io), M4 I/O (io), M5 GND (power), M6 I/O (io), M7 I/O (io), M8 I/O (io), M9 GND (power), M10 I/O (io), M11 I/O (io), M12 GND (power), M13 I/O (io), N1 VCCIO1 (power), N2 I/O,GCK3 (io), N3 I/O (io), N4 I/O (io), N5 I/O (io), N6 I/O (io), N7 I/O (io), N8 I/O (io), N9 I/O (io), N10 TMS (in), N11 I/O (io), N12 I/O (io), N13 VCCIO1 (power)
text: Block 8; Block 7; Block 6; Block 1; Block 5; Block 2; Block 3; Block 4

## XC95144XV-5TQ100C
designator U?
XC9500XV, 2.5V High-Performance CPLD with 144 Macrocells, 100-Pin TQFP, Commercial Grade; PackageDocument: ver1.1, Oct-2002; Published: 17-Jul-2002; DatasheetDocument: ver2.7, Aug-2003; PackageReference: TQ100; Publisher: Altium Limited; Code_IPC: SQFP14X14-100
footprint TQ100 (100-Pin Thin Quad Flat Pack (TQ100))
3D model XC95144XV-TQ100 (100-Pin Thin Quad Flat Pack (TQ100))
signal-integrity model XC95144XV_TQ100 (XC9500XV)
pins: 1 I/O,GTS3 (io), 2 I/O,GTS4 (io), 3 I/O,GTS1 (io), 4 I/O,GTS2 (io), 5 VCCINT 2.5V (power), 6 I/O (io), 7 I/O (io), 8 I/O (io), 9 I/O (io), 10 I/O (io), 11 I/O (io), 12 I/O (io), 13 I/O (io), 14 I/O (io), 15 I/O (io), 16 I/O (io), 17 I/O (io), 18 I/O (io), 19 I/O (io), 20 I/O (io), 21 GND (power), 22 I/O,GCK1 (io), 23 I/O,GCK2 (io), 24 I/O (io), 25 I/O (io), 26 VCCIO1 (power), 27 I/O,GCK3 (io), 28 I/O (io), 29 I/O (io), 30 I/O (io), 31 GND (power), 32 I/O (io), 33 I/O (io), 34 I/O (io), 35 I/O (io), 36 I/O (io), 37 I/O (io), 38 VCCIO1 (power), 39 I/O (io), 40 I/O (io), 41 I/O (io), 42 I/O (io), 43 I/O (io), 44 GND (power), 45 TDI (in), 46 I/O (io), 47 TMS (in), 48 TCK (in), 49 I/O (io), 50 I/O (io), 51 VCCIO1 (power), 52 I/O (io), 53 I/O (io), 54 I/O (io), 55 I/O (io), 56 I/O (io), 57 VCCINT 2.5V (power), 58 I/O (io), 59 I/O (io), 60 I/O (io), 61 I/O (io), 62 GND (power), 63 I/O (io), 64 I/O (io), 65 I/O (io), 66 I/O (io), 67 I/O (io), 68 I/O (io), 69 GND (power), 70 I/O (io), 71 I/O (io), 72 I/O (io), 73 I/O (io), 74 I/O (io), 75 GND (power), 76 I/O (io), 77 I/O (io), 78 I/O (io), 79 I/O (io), 80 I/O (io), 81 I/O (io), 82 I/O (io), 83 TDO (out), 84 GND (power), 85 I/O (io), 86 I/O (io), 87 I/O (io), 88 VCCIO2 (power), 89 I/O (io), 90 I/O (io), 91 I/O (io), 92 I/O (io), 93 I/O (io), 94 I/O (io), 95 I/O (io), 96 I/O (io), 97 I/O (io), 98 VCCINT 2.5V (power), 99 I/O,GSR (io), 100 GND (power)
text: Block 8; Block 7; Block 6; Block 1; Block 5; Block 2; Block 3; Block 4

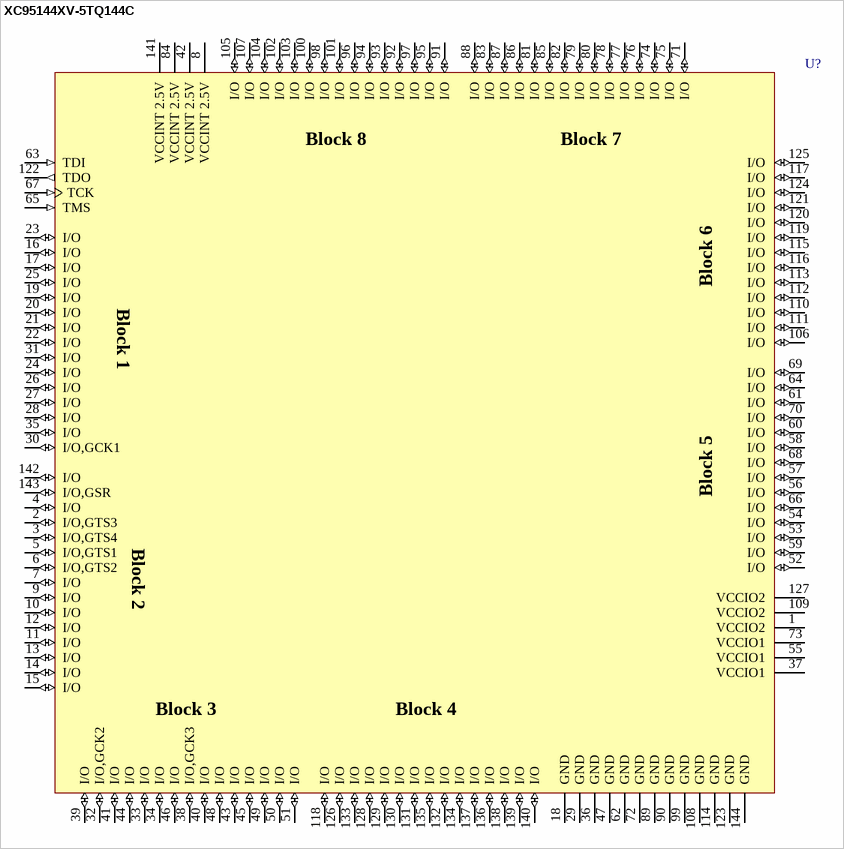
[diagram p4: symbol XC95144XV-5TQ144C]

## XC95144XV-5TQ144C
designator U?
XC9500XV, 2.5V High-Performance CPLD with 144 Macrocells, 144-Pin TQFP, Commercial Grade; PackageDocument: ver1.1, Oct-2002; Published: 17-Jul-2002; DatasheetDocument: ver2.7, Aug-2003; PackageReference: TQ144; Publisher: Altium Limited; Code_JEDEC: MS-026-BFB; Code_IPC: SQFP20X20-144
footprint TQ144 (144-Pin Thin Quad Flat Pack (TQ144))
3D model XC95144XV-TQ144 (144-Pin Thin Quad Flat Pack (TQ144))
signal-integrity model XC95144XV_TQ144 (XC9500XV)
pins: 1 VCCIO2 (power), 2 I/O,GTS3 (io), 3 I/O,GTS4 (io), 4 I/O (io), 5 I/O,GTS1 (io), 6 I/O,GTS2 (io), 7 I/O (io), 8 VCCINT 2.5V (power), 9 I/O (io), 10 I/O (io), 11 I/O (io), 12 I/O (io), 13 I/O (io), 14 I/O (io), 15 I/O (io), 16 I/O (io), 17 I/O (io), 18 GND (power), 19 I/O (io), 20 I/O (io), 21 I/O (io), 22 I/O (io), 23 I/O (io), 24 I/O (io), 25 I/O (io), 26 I/O (io), 27 I/O (io), 28 I/O (io), 29 GND (power), 30 I/O,GCK1 (io), 31 I/O (io), 32 I/O,GCK2 (io), 33 I/O (io), 34 I/O (io), 35 I/O (io), 36 GND (power), 37 VCCIO1 (power), 38 I/O,GCK3 (io), 39 I/O (io), 40 I/O (io), 41 I/O (io), 42 VCCINT 2.5V (power), 43 I/O (io), 44 I/O (io), 45 I/O (io), 46 I/O (io), 47 GND (power), 48 I/O (io), 49 I/O (io), 50 I/O (io), 51 I/O (io), 52 I/O (io), 53 I/O (io), 54 I/O (io), 55 VCCIO1 (power), 56 I/O (io), 57 I/O (io), 58 I/O (io), 59 I/O (io), 60 I/O (io), 61 I/O (io), 62 GND (power), 63 TDI (in), 64 I/O (io), 65 TMS (in), 66 I/O (io), 67 TCK (in), 68 I/O (io), 69 I/O (io), 70 I/O (io), 71 I/O (io), 72 GND (power), 73 VCCIO1 (power), 74 I/O (io), 75 I/O (io), 76 I/O (io), 77 I/O (io), 78 I/O (io), 79 I/O (io), 80 I/O (io), 81 I/O (io), 82 I/O (io), 83 I/O (io), 84 VCCINT 2.5V (power), 85 I/O (io), 86 I/O (io), 87 I/O (io), 88 I/O (io), 89 GND (power), 90 GND (power), 91 I/O (io), 92 I/O (io), 93 I/O (io), 94 I/O (io), 95 I/O (io), 96 I/O (io), 97 I/O (io), 98 I/O (io), 99 GND (power), 100 I/O (io), 101 I/O (io), 102 I/O (io), 103 I/O (io), 104 I/O (io), 105 I/O (io), 106 I/O (io), 107 I/O (io), 108 GND (power), 109 VCCIO2 (power), 110 I/O (io), 111 I/O (io), 112 I/O (io), 113 I/O (io), 114 GND (power), 115 I/O (io), 116 I/O (io), 117 I/O (io), 118 I/O (io), 119 I/O (io), 120 I/O (io), 121 I/O (io), 122 TDO (out), 123 GND (power), 124 I/O (io), 125 I/O (io), 126 I/O (io), 127 VCCIO2 (power), 128 I/O (io), 129 I/O (io), 130 I/O (io), 131 I/O (io), 132 I/O (io), 133 I/O (io), 134 I/O (io), 135 I/O (io), 136 I/O (io), 137 I/O (io), 138 I/O (io), 139 I/O (io), 140 I/O (io), 141 VCCINT 2.5V (power), 142 I/O (io), 143 I/O,GSR (io), 144 GND (power)
text: Block 8; Block 7; Block 6; Block 1; Block 5; Block 2; Block 3; Block 4

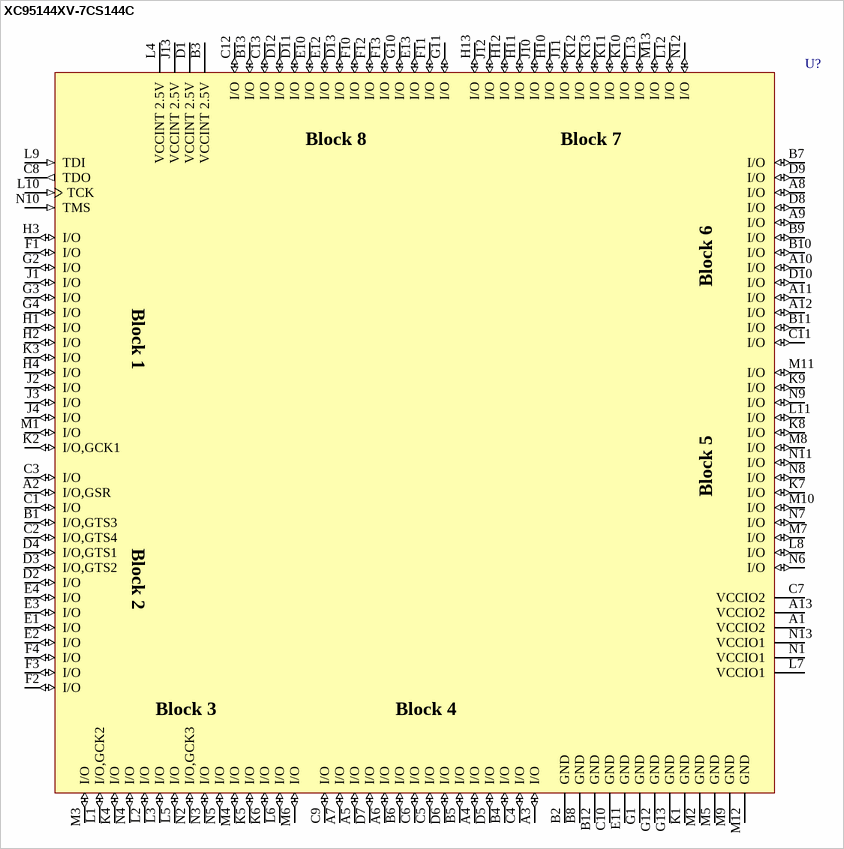
[diagram p5: symbol XC95144XV-7CS144C]

## XC95144XV-7CS144C
designator U?
XC9500XV, 2.5V High-Performance CPLD with 144 Macrocells, 144-Ball CSBGA, Commercial Grade; PackageDocument: ver1.0, Jun-2000; Published: 17-Jul-2002; LatestRevisionDate: 17-Sep-2003; LatestRevisionNote: PCB Footprint dimensions updated; DatasheetDocument: ver2.7, Aug-2003; PackageReference: CS144; Publisher: Altium Limited
footprint CS144 (144-Ball Chip Scale Ball Grid Array (CS144))
3D model XC95144XV-CS144 (144-Ball Chip Scale Ball Grid Array (CS144))
signal-integrity model XC95144XV_CS144 (XC9500XV)
pins: A1 VCCIO2 (power), A2 I/O,GSR (io), A3 I/O (io), A4 I/O (io), A5 I/O (io), A6 I/O (io), A7 I/O (io), A8 I/O (io), A9 I/O (io), A10 I/O (io), A11 I/O (io), A12 I/O (io), A13 VCCIO2 (power), B1 I/O,GTS3 (io), B2 GND (power), B3 VCCINT 2.5V (power), B4 I/O (io), B5 I/O (io), B6 I/O (io), B7 I/O (io), B8 GND (power), B9 I/O (io), B10 I/O (io), B11 I/O (io), B12 GND (power), B13 I/O (io), C1 I/O (io), C2 I/O,GTS4 (io), C3 I/O (io), C4 I/O (io), C5 I/O (io), C6 I/O (io), C7 VCCIO2 (power), C8 TDO (out), C9 I/O (io), C10 GND (power), C11 I/O (io), C12 I/O (io), C13 I/O (io), D1 VCCINT 2.5V (power), D2 I/O (io), D3 I/O,GTS2 (io), D4 I/O,GTS1 (io), D5 I/O (io), D6 I/O (io), D7 I/O (io), D8 I/O (io), D9 I/O (io), D10 I/O (io), D11 I/O (io), D12 I/O (io), D13 I/O (io), E1 I/O (io), E2 I/O (io), E3 I/O (io), E4 I/O (io), E10 I/O (io), E11 GND (power), E12 I/O (io), E13 I/O (io), F1 I/O (io), F2 I/O (io), F3 I/O (io), F4 I/O (io), F10 I/O (io), F11 I/O (io), F12 I/O (io), F13 I/O (io), G1 GND (power), G2 I/O (io), G3 I/O (io), G4 I/O (io), G10 I/O (io), G11 I/O (io), G12 GND (power), G13 GND (power), H1 I/O (io), H2 I/O (io), H3 I/O (io), H4 I/O (io), H10 I/O (io), H11 I/O (io), H12 I/O (io), H13 I/O (io), J1 I/O (io), J2 I/O (io), J3 I/O (io), J4 I/O (io), J10 I/O (io), J11 I/O (io), J12 I/O (io), J13 VCCINT 2.5V (power), K1 GND (power), K2 I/O,GCK1 (io), K3 I/O (io), K4 I/O (io), K5 I/O (io), K6 I/O (io), K7 I/O (io), K8 I/O (io), K9 I/O (io), K10 I/O (io), K11 I/O (io), K12 I/O (io), K13 I/O (io), L1 I/O,GCK2 (io), L2 I/O (io), L3 I/O (io), L4 VCCINT 2.5V (power), L5 I/O (io), L6 I/O (io), L7 VCCIO1 (power), L8 I/O (io), L9 TDI (in), L10 TCK (in), L11 I/O (io), L12 I/O (io), L13 I/O (io), M1 I/O (io), M2 GND (power), M3 I/O (io), M4 I/O (io), M5 GND (power), M6 I/O (io), M7 I/O (io), M8 I/O (io), M9 GND (power), M10 I/O (io), M11 I/O (io), M12 GND (power), M13 I/O (io), N1 VCCIO1 (power), N2 I/O,GCK3 (io), N3 I/O (io), N4 I/O (io), N5 I/O (io), N6 I/O (io), N7 I/O (io), N8 I/O (io), N9 I/O (io), N10 TMS (in), N11 I/O (io), N12 I/O (io), N13 VCCIO1 (power)
text: Block 8; Block 7; Block 6; Block 1; Block 5; Block 2; Block 3; Block 4

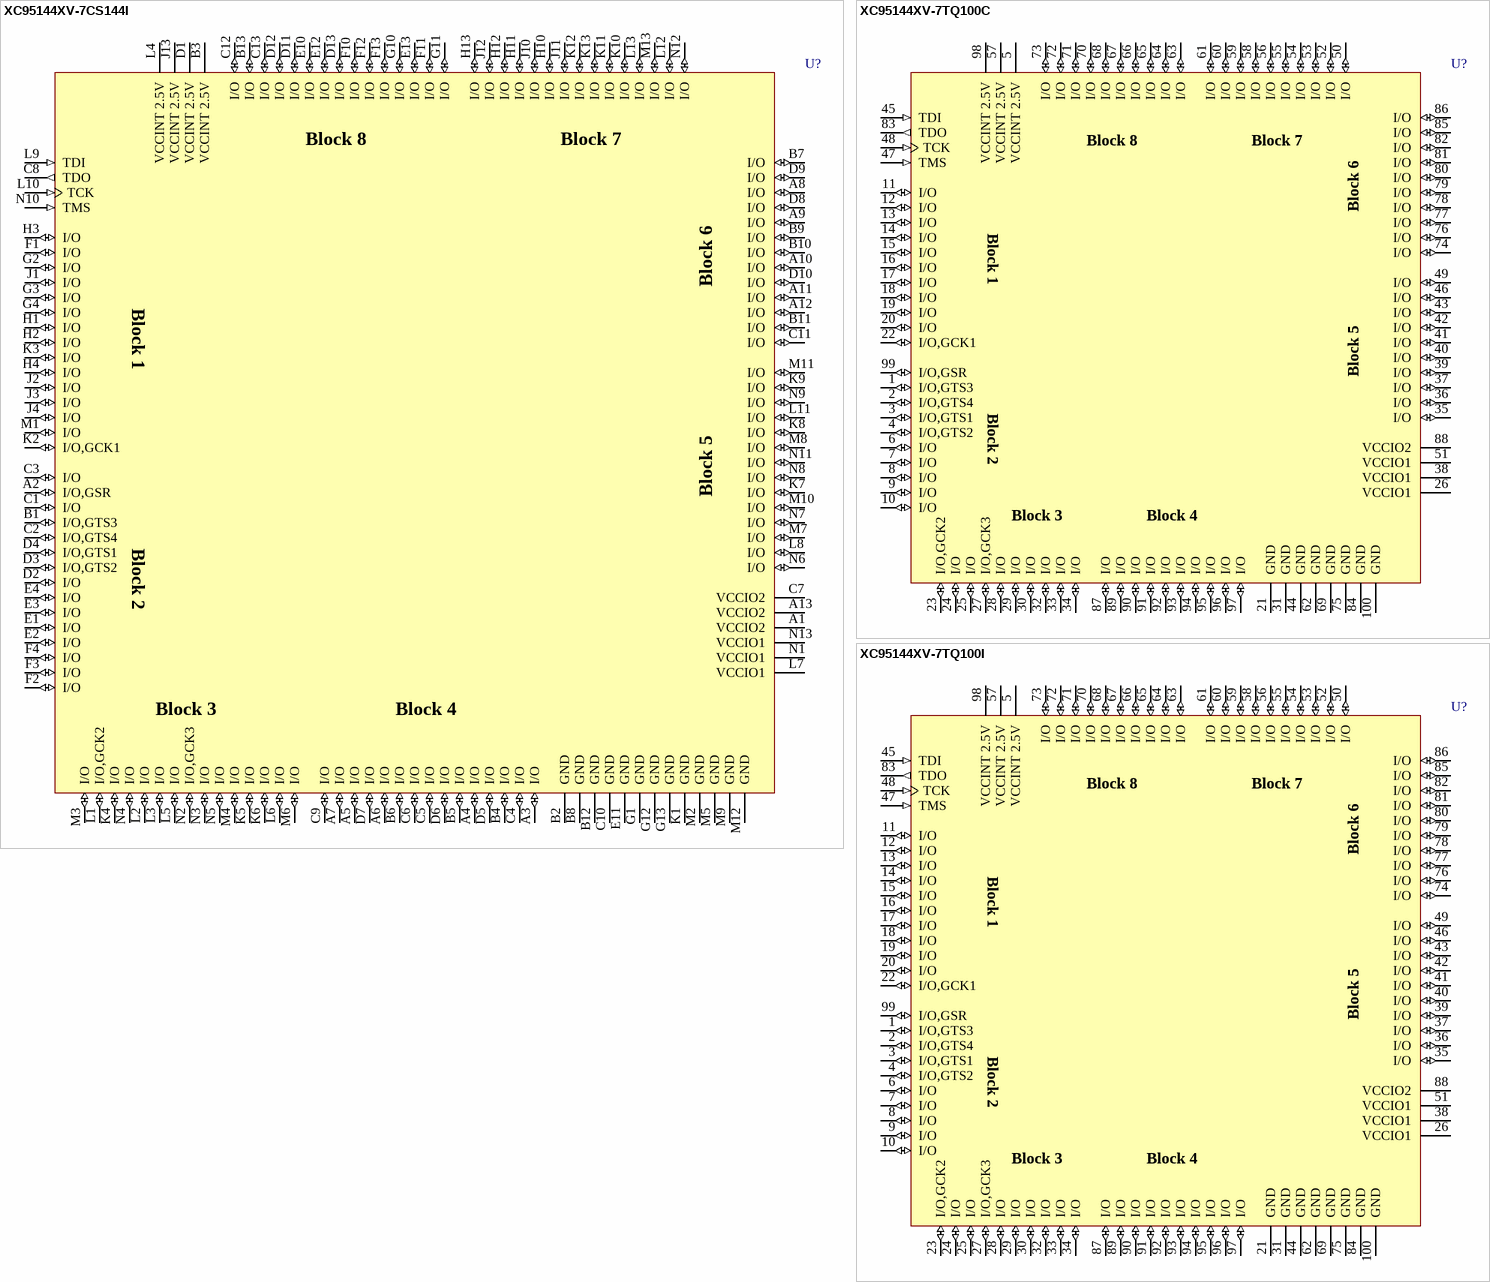
[diagram p6: symbols XC95144XV-7CS144I to XC95144XV-7TQ100I]

## XC95144XV-7CS144I
designator U?
XC9500XV, 2.5V High-Performance CPLD with 144 Macrocells, 144-Ball CSBGA, Industrial Grade; PackageDocument: ver1.0, Jun-2000; Published: 17-Jul-2002; LatestRevisionDate: 17-Sep-2003; LatestRevisionNote: PCB Footprint dimensions updated; DatasheetDocument: ver2.7, Aug-2003; PackageReference: CS144; Publisher: Altium Limited
footprint CS144 (144-Ball Chip Scale Ball Grid Array (CS144))
3D model XC95144XV-CS144 (144-Ball Chip Scale Ball Grid Array (CS144))
signal-integrity model XC95144XV_CS144 (XC9500XV)
pins: A1 VCCIO2 (power), A2 I/O,GSR (io), A3 I/O (io), A4 I/O (io), A5 I/O (io), A6 I/O (io), A7 I/O (io), A8 I/O (io), A9 I/O (io), A10 I/O (io), A11 I/O (io), A12 I/O (io), A13 VCCIO2 (power), B1 I/O,GTS3 (io), B2 GND (power), B3 VCCINT 2.5V (power), B4 I/O (io), B5 I/O (io), B6 I/O (io), B7 I/O (io), B8 GND (power), B9 I/O (io), B10 I/O (io), B11 I/O (io), B12 GND (power), B13 I/O (io), C1 I/O (io), C2 I/O,GTS4 (io), C3 I/O (io), C4 I/O (io), C5 I/O (io), C6 I/O (io), C7 VCCIO2 (power), C8 TDO (out), C9 I/O (io), C10 GND (power), C11 I/O (io), C12 I/O (io), C13 I/O (io), D1 VCCINT 2.5V (power), D2 I/O (io), D3 I/O,GTS2 (io), D4 I/O,GTS1 (io), D5 I/O (io), D6 I/O (io), D7 I/O (io), D8 I/O (io), D9 I/O (io), D10 I/O (io), D11 I/O (io), D12 I/O (io), D13 I/O (io), E1 I/O (io), E2 I/O (io), E3 I/O (io), E4 I/O (io), E10 I/O (io), E11 GND (power), E12 I/O (io), E13 I/O (io), F1 I/O (io), F2 I/O (io), F3 I/O (io), F4 I/O (io), F10 I/O (io), F11 I/O (io), F12 I/O (io), F13 I/O (io), G1 GND (power), G2 I/O (io), G3 I/O (io), G4 I/O (io), G10 I/O (io), G11 I/O (io), G12 GND (power), G13 GND (power), H1 I/O (io), H2 I/O (io), H3 I/O (io), H4 I/O (io), H10 I/O (io), H11 I/O (io), H12 I/O (io), H13 I/O (io), J1 I/O (io), J2 I/O (io), J3 I/O (io), J4 I/O (io), J10 I/O (io), J11 I/O (io), J12 I/O (io), J13 VCCINT 2.5V (power), K1 GND (power), K2 I/O,GCK1 (io), K3 I/O (io), K4 I/O (io), K5 I/O (io), K6 I/O (io), K7 I/O (io), K8 I/O (io), K9 I/O (io), K10 I/O (io), K11 I/O (io), K12 I/O (io), K13 I/O (io), L1 I/O,GCK2 (io), L2 I/O (io), L3 I/O (io), L4 VCCINT 2.5V (power), L5 I/O (io), L6 I/O (io), L7 VCCIO1 (power), L8 I/O (io), L9 TDI (in), L10 TCK (in), L11 I/O (io), L12 I/O (io), L13 I/O (io), M1 I/O (io), M2 GND (power), M3 I/O (io), M4 I/O (io), M5 GND (power), M6 I/O (io), M7 I/O (io), M8 I/O (io), M9 GND (power), M10 I/O (io), M11 I/O (io), M12 GND (power), M13 I/O (io), N1 VCCIO1 (power), N2 I/O,GCK3 (io), N3 I/O (io), N4 I/O (io), N5 I/O (io), N6 I/O (io), N7 I/O (io), N8 I/O (io), N9 I/O (io), N10 TMS (in), N11 I/O (io), N12 I/O (io), N13 VCCIO1 (power)
text: Block 8; Block 7; Block 6; Block 1; Block 5; Block 2; Block 3; Block 4

## XC95144XV-7TQ100C
designator U?
XC9500XV, 2.5V High-Performance CPLD with 144 Macrocells, 100-Pin TQFP, Commercial Grade; PackageDocument: ver1.1, Oct-2002; Published: 17-Jul-2002; DatasheetDocument: ver2.7, Aug-2003; PackageReference: TQ100; Publisher: Altium Limited; Code_IPC: SQFP14X14-100
footprint TQ100 (100-Pin Thin Quad Flat Pack (TQ100))
3D model XC95144XV-TQ100 (100-Pin Thin Quad Flat Pack (TQ100))
signal-integrity model XC95144XV_TQ100 (XC9500XV)
pins: 1 I/O,GTS3 (io), 2 I/O,GTS4 (io), 3 I/O,GTS1 (io), 4 I/O,GTS2 (io), 5 VCCINT 2.5V (power), 6 I/O (io), 7 I/O (io), 8 I/O (io), 9 I/O (io), 10 I/O (io), 11 I/O (io), 12 I/O (io), 13 I/O (io), 14 I/O (io), 15 I/O (io), 16 I/O (io), 17 I/O (io), 18 I/O (io), 19 I/O (io), 20 I/O (io), 21 GND (power), 22 I/O,GCK1 (io), 23 I/O,GCK2 (io), 24 I/O (io), 25 I/O (io), 26 VCCIO1 (power), 27 I/O,GCK3 (io), 28 I/O (io), 29 I/O (io), 30 I/O (io), 31 GND (power), 32 I/O (io), 33 I/O (io), 34 I/O (io), 35 I/O (io), 36 I/O (io), 37 I/O (io), 38 VCCIO1 (power), 39 I/O (io), 40 I/O (io), 41 I/O (io), 42 I/O (io), 43 I/O (io), 44 GND (power), 45 TDI (in), 46 I/O (io), 47 TMS (in), 48 TCK (in), 49 I/O (io), 50 I/O (io), 51 VCCIO1 (power), 52 I/O (io), 53 I/O (io), 54 I/O (io), 55 I/O (io), 56 I/O (io), 57 VCCINT 2.5V (power), 58 I/O (io), 59 I/O (io), 60 I/O (io), 61 I/O (io), 62 GND (power), 63 I/O (io), 64 I/O (io), 65 I/O (io), 66 I/O (io), 67 I/O (io), 68 I/O (io), 69 GND (power), 70 I/O (io), 71 I/O (io), 72 I/O (io), 73 I/O (io), 74 I/O (io), 75 GND (power), 76 I/O (io), 77 I/O (io), 78 I/O (io), 79 I/O (io), 80 I/O (io), 81 I/O (io), 82 I/O (io), 83 TDO (out), 84 GND (power), 85 I/O (io), 86 I/O (io), 87 I/O (io), 88 VCCIO2 (power), 89 I/O (io), 90 I/O (io), 91 I/O (io), 92 I/O (io), 93 I/O (io), 94 I/O (io), 95 I/O (io), 96 I/O (io), 97 I/O (io), 98 VCCINT 2.5V (power), 99 I/O,GSR (io), 100 GND (power)
text: Block 8; Block 7; Block 6; Block 1; Block 5; Block 2; Block 3; Block 4

## XC95144XV-7TQ100I
designator U?
XC9500XV, 2.5V High-Performance CPLD with 144 Macrocells, 100-Pin TQFP, Industrial Grade; PackageDocument: ver1.1, Oct-2002; Published: 17-Jul-2002; DatasheetDocument: ver2.7, Aug-2003; PackageReference: TQ100; Publisher: Altium Limited; Code_IPC: SQFP14X14-100
footprint TQ100 (100-Pin Thin Quad Flat Pack (TQ100))
3D model XC95144XV-TQ100 (100-Pin Thin Quad Flat Pack (TQ100))
signal-integrity model XC95144XV_TQ100 (XC9500XV)
pins: 1 I/O,GTS3 (io), 2 I/O,GTS4 (io), 3 I/O,GTS1 (io), 4 I/O,GTS2 (io), 5 VCCINT 2.5V (power), 6 I/O (io), 7 I/O (io), 8 I/O (io), 9 I/O (io), 10 I/O (io), 11 I/O (io), 12 I/O (io), 13 I/O (io), 14 I/O (io), 15 I/O (io), 16 I/O (io), 17 I/O (io), 18 I/O (io), 19 I/O (io), 20 I/O (io), 21 GND (power), 22 I/O,GCK1 (io), 23 I/O,GCK2 (io), 24 I/O (io), 25 I/O (io), 26 VCCIO1 (power), 27 I/O,GCK3 (io), 28 I/O (io), 29 I/O (io), 30 I/O (io), 31 GND (power), 32 I/O (io), 33 I/O (io), 34 I/O (io), 35 I/O (io), 36 I/O (io), 37 I/O (io), 38 VCCIO1 (power), 39 I/O (io), 40 I/O (io), 41 I/O (io), 42 I/O (io), 43 I/O (io), 44 GND (power), 45 TDI (in), 46 I/O (io), 47 TMS (in), 48 TCK (in), 49 I/O (io), 50 I/O (io), 51 VCCIO1 (power), 52 I/O (io), 53 I/O (io), 54 I/O (io), 55 I/O (io), 56 I/O (io), 57 VCCINT 2.5V (power), 58 I/O (io), 59 I/O (io), 60 I/O (io), 61 I/O (io), 62 GND (power), 63 I/O (io), 64 I/O (io), 65 I/O (io), 66 I/O (io), 67 I/O (io), 68 I/O (io), 69 GND (power), 70 I/O (io), 71 I/O (io), 72 I/O (io), 73 I/O (io), 74 I/O (io), 75 GND (power), 76 I/O (io), 77 I/O (io), 78 I/O (io), 79 I/O (io), 80 I/O (io), 81 I/O (io), 82 I/O (io), 83 TDO (out), 84 GND (power), 85 I/O (io), 86 I/O (io), 87 I/O (io), 88 VCCIO2 (power), 89 I/O (io), 90 I/O (io), 91 I/O (io), 92 I/O (io), 93 I/O (io), 94 I/O (io), 95 I/O (io), 96 I/O (io), 97 I/O (io), 98 VCCINT 2.5V (power), 99 I/O,GSR (io), 100 GND (power)
text: Block 8; Block 7; Block 6; Block 1; Block 5; Block 2; Block 3; Block 4

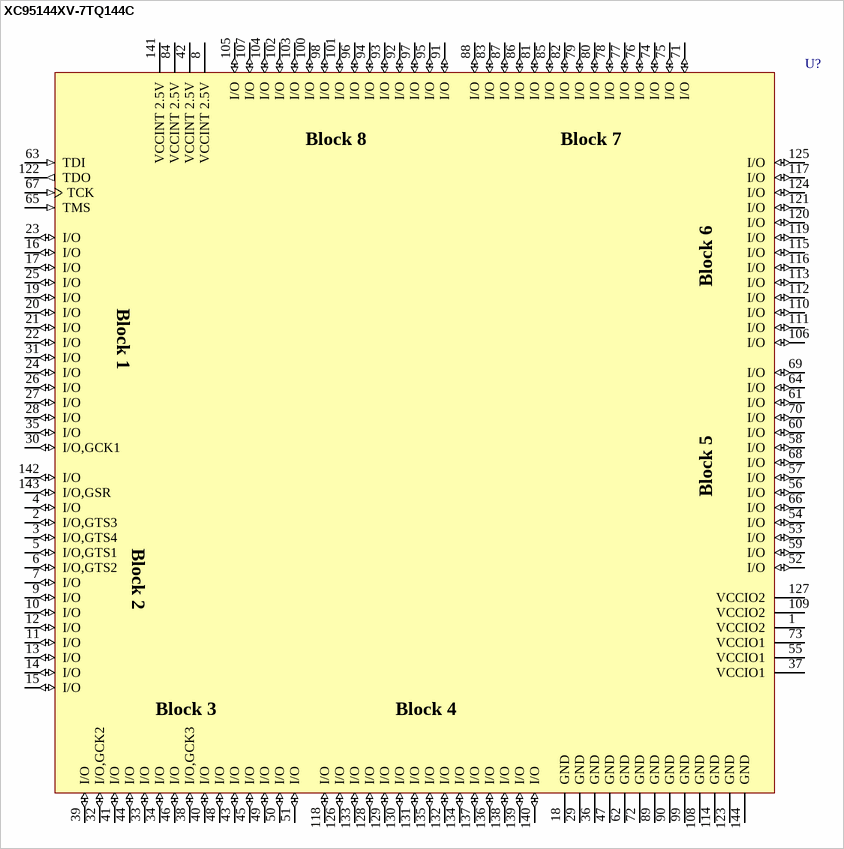
[diagram p7: symbol XC95144XV-7TQ144C]

## XC95144XV-7TQ144C
designator U?
XC9500XV, 2.5V High-Performance CPLD with 144 Macrocells, 144-Pin TQFP, Commercial Grade; PackageDocument: ver1.1, Oct-2002; Published: 17-Jul-2002; DatasheetDocument: ver2.7, Aug-2003; PackageReference: TQ144; Publisher: Altium Limited; Code_JEDEC: MS-026-BFB; Code_IPC: SQFP20X20-144
footprint TQ144 (144-Pin Thin Quad Flat Pack (TQ144))
3D model XC95144XV-TQ144 (144-Pin Thin Quad Flat Pack (TQ144))
signal-integrity model XC95144XV_TQ144 (XC9500XV)
pins: 1 VCCIO2 (power), 2 I/O,GTS3 (io), 3 I/O,GTS4 (io), 4 I/O (io), 5 I/O,GTS1 (io), 6 I/O,GTS2 (io), 7 I/O (io), 8 VCCINT 2.5V (power), 9 I/O (io), 10 I/O (io), 11 I/O (io), 12 I/O (io), 13 I/O (io), 14 I/O (io), 15 I/O (io), 16 I/O (io), 17 I/O (io), 18 GND (power), 19 I/O (io), 20 I/O (io), 21 I/O (io), 22 I/O (io), 23 I/O (io), 24 I/O (io), 25 I/O (io), 26 I/O (io), 27 I/O (io), 28 I/O (io), 29 GND (power), 30 I/O,GCK1 (io), 31 I/O (io), 32 I/O,GCK2 (io), 33 I/O (io), 34 I/O (io), 35 I/O (io), 36 GND (power), 37 VCCIO1 (power), 38 I/O,GCK3 (io), 39 I/O (io), 40 I/O (io), 41 I/O (io), 42 VCCINT 2.5V (power), 43 I/O (io), 44 I/O (io), 45 I/O (io), 46 I/O (io), 47 GND (power), 48 I/O (io), 49 I/O (io), 50 I/O (io), 51 I/O (io), 52 I/O (io), 53 I/O (io), 54 I/O (io), 55 VCCIO1 (power), 56 I/O (io), 57 I/O (io), 58 I/O (io), 59 I/O (io), 60 I/O (io), 61 I/O (io), 62 GND (power), 63 TDI (in), 64 I/O (io), 65 TMS (in), 66 I/O (io), 67 TCK (in), 68 I/O (io), 69 I/O (io), 70 I/O (io), 71 I/O (io), 72 GND (power), 73 VCCIO1 (power), 74 I/O (io), 75 I/O (io), 76 I/O (io), 77 I/O (io), 78 I/O (io), 79 I/O (io), 80 I/O (io), 81 I/O (io), 82 I/O (io), 83 I/O (io), 84 VCCINT 2.5V (power), 85 I/O (io), 86 I/O (io), 87 I/O (io), 88 I/O (io), 89 GND (power), 90 GND (power), 91 I/O (io), 92 I/O (io), 93 I/O (io), 94 I/O (io), 95 I/O (io), 96 I/O (io), 97 I/O (io), 98 I/O (io), 99 GND (power), 100 I/O (io), 101 I/O (io), 102 I/O (io), 103 I/O (io), 104 I/O (io), 105 I/O (io), 106 I/O (io), 107 I/O (io), 108 GND (power), 109 VCCIO2 (power), 110 I/O (io), 111 I/O (io), 112 I/O (io), 113 I/O (io), 114 GND (power), 115 I/O (io), 116 I/O (io), 117 I/O (io), 118 I/O (io), 119 I/O (io), 120 I/O (io), 121 I/O (io), 122 TDO (out), 123 GND (power), 124 I/O (io), 125 I/O (io), 126 I/O (io), 127 VCCIO2 (power), 128 I/O (io), 129 I/O (io), 130 I/O (io), 131 I/O (io), 132 I/O (io), 133 I/O (io), 134 I/O (io), 135 I/O (io), 136 I/O (io), 137 I/O (io), 138 I/O (io), 139 I/O (io), 140 I/O (io), 141 VCCINT 2.5V (power), 142 I/O (io), 143 I/O,GSR (io), 144 GND (power)
text: Block 8; Block 7; Block 6; Block 1; Block 5; Block 2; Block 3; Block 4

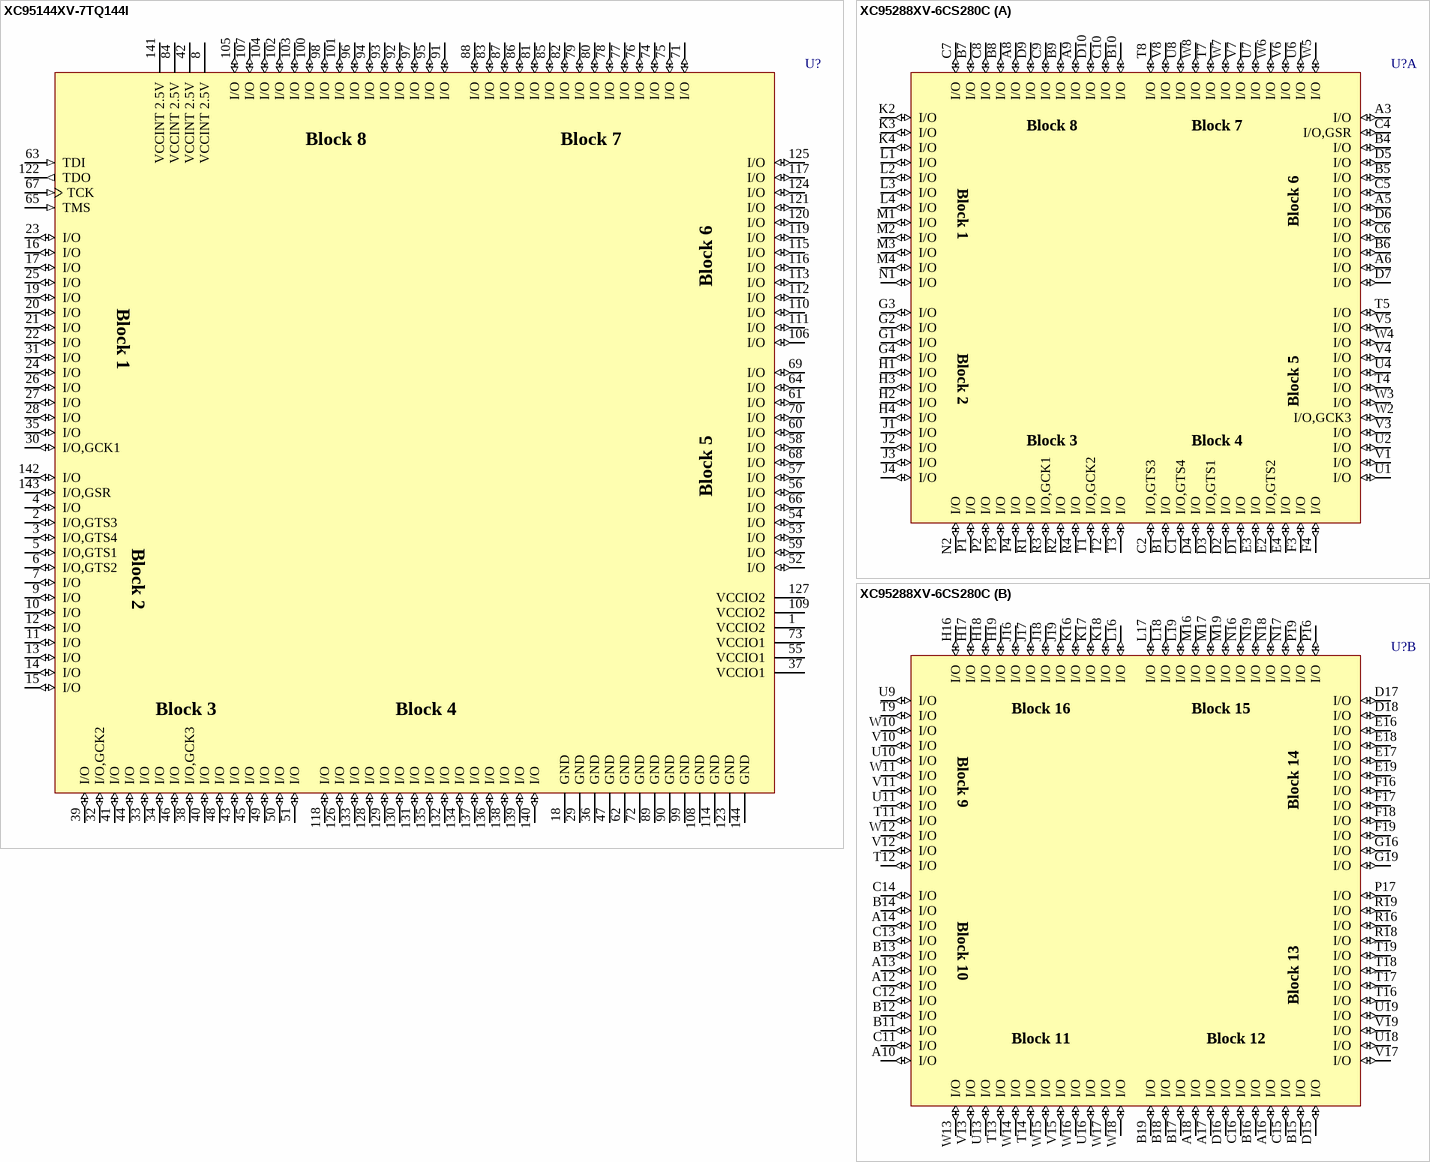
[diagram p8: symbols XC95144XV-7TQ144I to XC95288XV-6CS280C]

## XC95144XV-7TQ144I
designator U?
XC9500XV, 2.5V High-Performance CPLD with 144 Macrocells, 144-Pin TQFP, Industrial Grade; PackageDocument: ver1.1, Oct-2002; Published: 17-Jul-2002; DatasheetDocument: ver2.7, Aug-2003; PackageReference: TQ144; Publisher: Altium Limited; Code_JEDEC: MS-026-BFB; Code_IPC: SQFP20X20-144
footprint TQ144 (144-Pin Thin Quad Flat Pack (TQ144))
3D model XC95144XV-TQ144 (144-Pin Thin Quad Flat Pack (TQ144))
signal-integrity model XC95144XV_TQ144 (XC9500XV)
pins: 1 VCCIO2 (power), 2 I/O,GTS3 (io), 3 I/O,GTS4 (io), 4 I/O (io), 5 I/O,GTS1 (io), 6 I/O,GTS2 (io), 7 I/O (io), 8 VCCINT 2.5V (power), 9 I/O (io), 10 I/O (io), 11 I/O (io), 12 I/O (io), 13 I/O (io), 14 I/O (io), 15 I/O (io), 16 I/O (io), 17 I/O (io), 18 GND (power), 19 I/O (io), 20 I/O (io), 21 I/O (io), 22 I/O (io), 23 I/O (io), 24 I/O (io), 25 I/O (io), 26 I/O (io), 27 I/O (io), 28 I/O (io), 29 GND (power), 30 I/O,GCK1 (io), 31 I/O (io), 32 I/O,GCK2 (io), 33 I/O (io), 34 I/O (io), 35 I/O (io), 36 GND (power), 37 VCCIO1 (power), 38 I/O,GCK3 (io), 39 I/O (io), 40 I/O (io), 41 I/O (io), 42 VCCINT 2.5V (power), 43 I/O (io), 44 I/O (io), 45 I/O (io), 46 I/O (io), 47 GND (power), 48 I/O (io), 49 I/O (io), 50 I/O (io), 51 I/O (io), 52 I/O (io), 53 I/O (io), 54 I/O (io), 55 VCCIO1 (power), 56 I/O (io), 57 I/O (io), 58 I/O (io), 59 I/O (io), 60 I/O (io), 61 I/O (io), 62 GND (power), 63 TDI (in), 64 I/O (io), 65 TMS (in), 66 I/O (io), 67 TCK (in), 68 I/O (io), 69 I/O (io), 70 I/O (io), 71 I/O (io), 72 GND (power), 73 VCCIO1 (power), 74 I/O (io), 75 I/O (io), 76 I/O (io), 77 I/O (io), 78 I/O (io), 79 I/O (io), 80 I/O (io), 81 I/O (io), 82 I/O (io), 83 I/O (io), 84 VCCINT 2.5V (power), 85 I/O (io), 86 I/O (io), 87 I/O (io), 88 I/O (io), 89 GND (power), 90 GND (power), 91 I/O (io), 92 I/O (io), 93 I/O (io), 94 I/O (io), 95 I/O (io), 96 I/O (io), 97 I/O (io), 98 I/O (io), 99 GND (power), 100 I/O (io), 101 I/O (io), 102 I/O (io), 103 I/O (io), 104 I/O (io), 105 I/O (io), 106 I/O (io), 107 I/O (io), 108 GND (power), 109 VCCIO2 (power), 110 I/O (io), 111 I/O (io), 112 I/O (io), 113 I/O (io), 114 GND (power), 115 I/O (io), 116 I/O (io), 117 I/O (io), 118 I/O (io), 119 I/O (io), 120 I/O (io), 121 I/O (io), 122 TDO (out), 123 GND (power), 124 I/O (io), 125 I/O (io), 126 I/O (io), 127 VCCIO2 (power), 128 I/O (io), 129 I/O (io), 130 I/O (io), 131 I/O (io), 132 I/O (io), 133 I/O (io), 134 I/O (io), 135 I/O (io), 136 I/O (io), 137 I/O (io), 138 I/O (io), 139 I/O (io), 140 I/O (io), 141 VCCINT 2.5V (power), 142 I/O (io), 143 I/O,GSR (io), 144 GND (power)
text: Block 8; Block 7; Block 6; Block 1; Block 5; Block 2; Block 3; Block 4

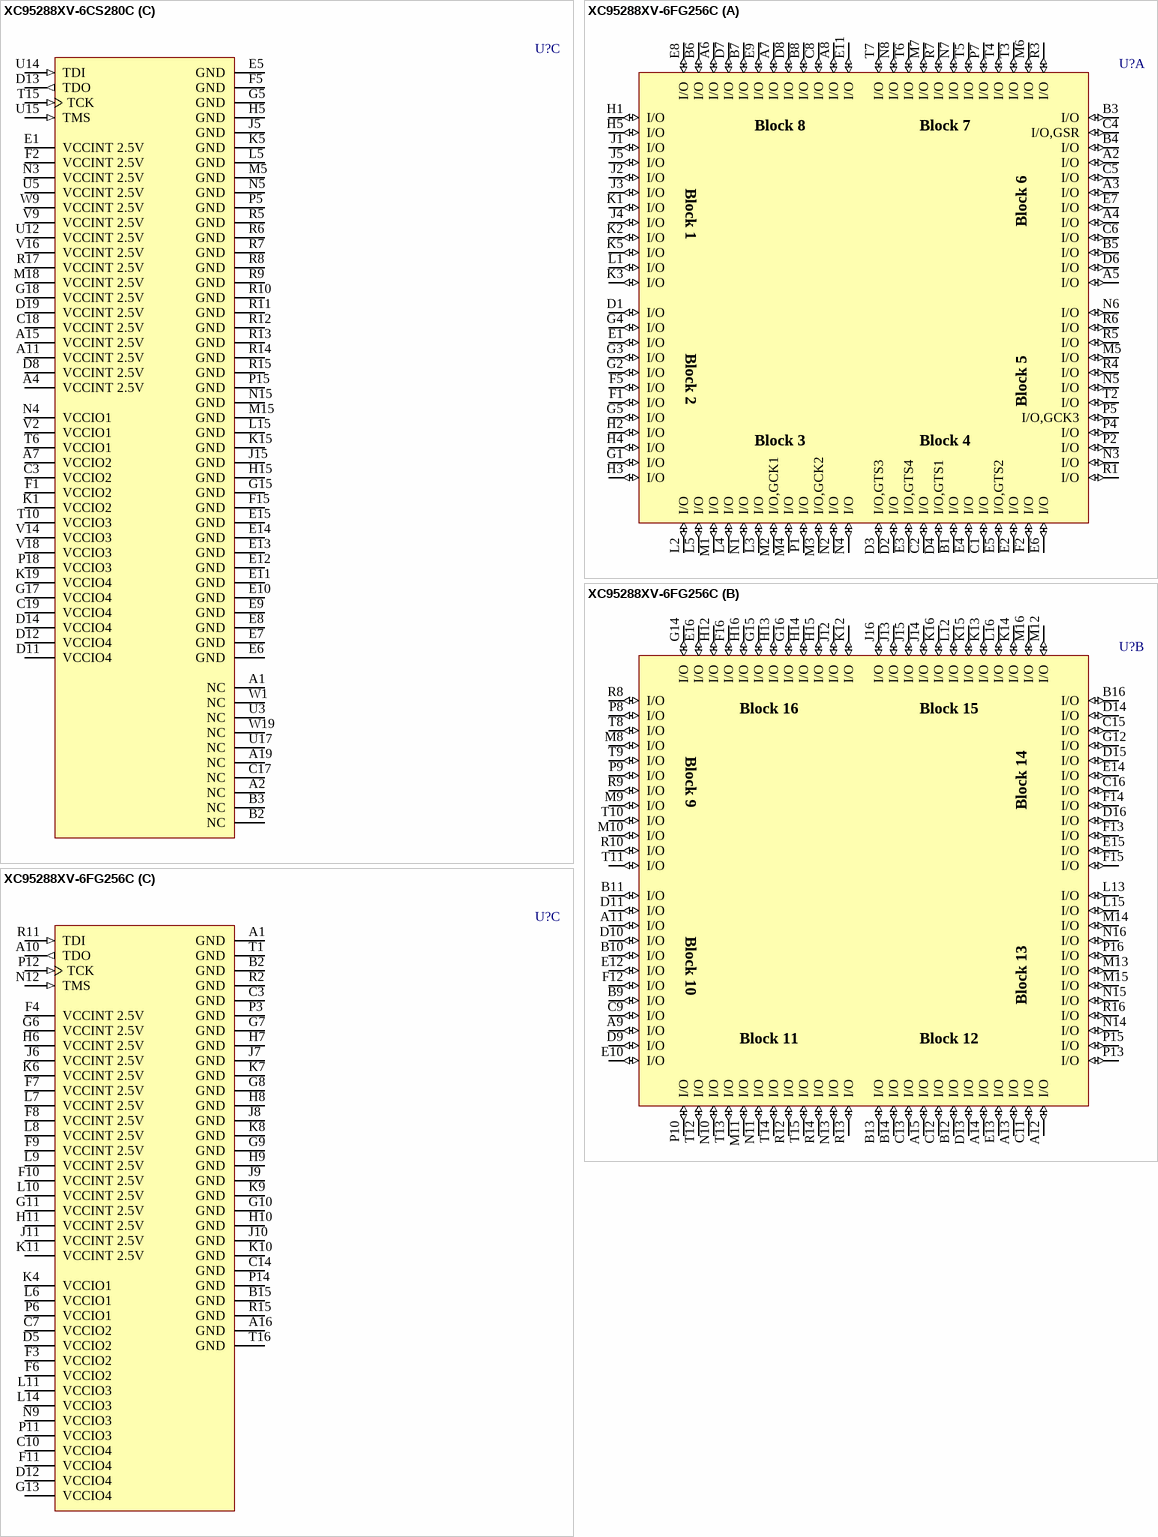
[diagram p9: symbols XC95288XV-6CS280C to XC95288XV-6FG256C]